# Altium integrated library NSC Interface.IntLib: 1288 symbols (part 3 of 45)
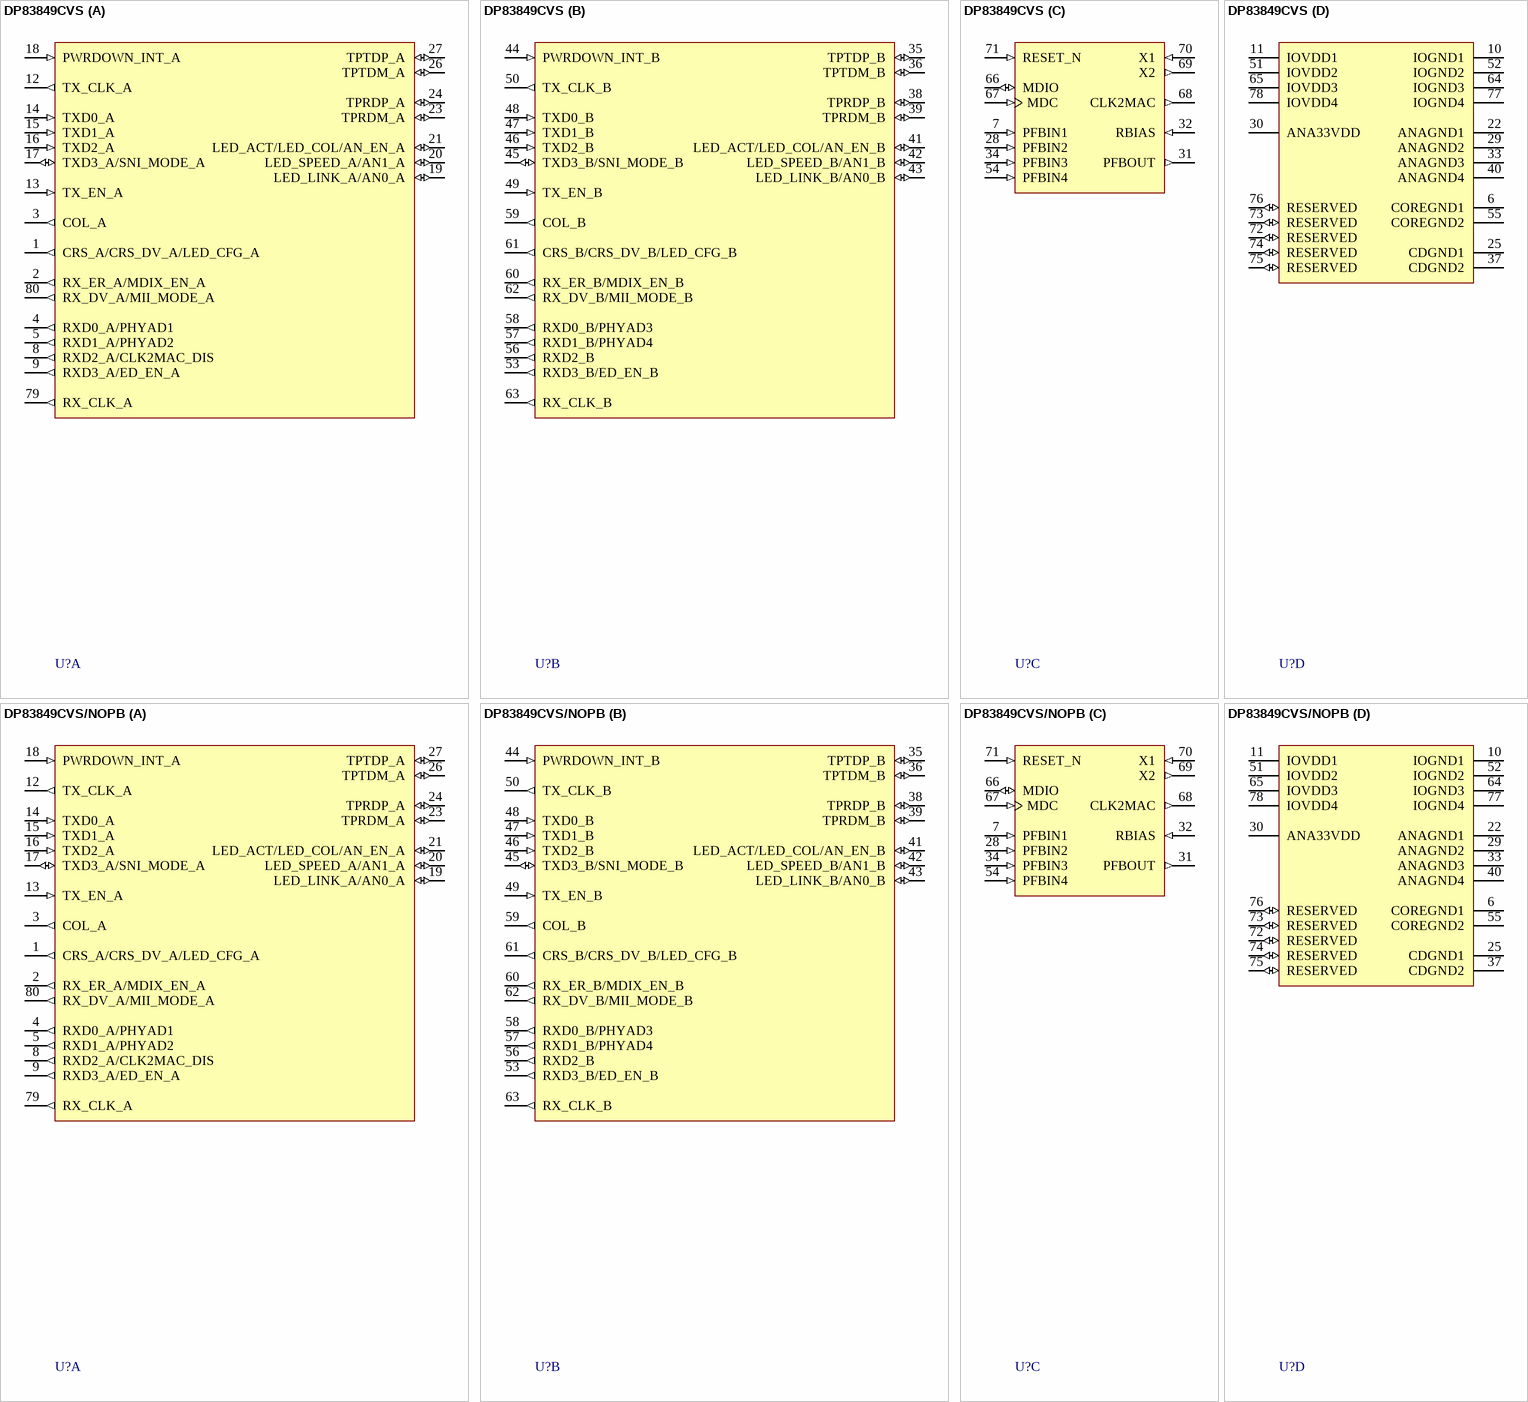
[diagram p114: symbols DP83849CVS to DP83849CVS/NOPB]

## DP83849CVS/NOPB
designator U?
PHYTER® DUAL Commercial Temperature Dual Port 10/100 Mb/s Ethernet Physical Layer Transceiver, 80-pin TQFP, Pb-Free; PartNumber: DP83849CVS/NOPB; Manufacturer: National Semiconductor; PackageTopMarking: NSUZXYTTE#*DP83849CVS; PowerWise: N; CompType: Interface IC; Published: 1-Mar-2010; DatasheetVersion: May-2008; PackageVersion: revB, Dec-1999; PackageReference: VHB80A; Publisher: Altium Limited; PackageDescription: LQFP, Jedec, Metric, 12 x 12 x 1.0mm, 80 Lead; Supplier 1: Digi-Key; Supplier Part Number 1: DP83849CVS-ND; Supplier 2: Farnell; Supplier Part Number 2: 1654254; RoHS: Y; PinCount: 80; Code_JEDEC: MS-026-ADD; ComponentLink1Description: DP83849C Datasheet; ComponentLink1URL: http://www.national.com/ds/DP/DP83849C.pdf; ComponentLink2Description: DP83849C Web Page; ComponentLink2URL: http://www.national.com/pf/DP/DP83849C.html; ComponentLink3Description: VHB80A Package Page; ComponentLink3URL: http://www.national.com/packaging/folders/vhb80a.html
footprint VHB80A_N (Thin QFP, 80-Leads, Body 12x12mm, Pitch 0.5mm, IPC Medium Density)
footprint VHB80A_L (Thin QFP, 80-Leads, Body 12x12mm, Pitch 0.5mm, IPC High Density)
footprint VHB80A_M (Thin QFP, 80-Leads, Body 12x12mm, Pitch 0.5mm, IPC Low Density)
part A pins: 1 CRS_A/CRS_DV_A/LED_CFG_A (out), 2 RX_ER_A/MDIX_EN_A (out), 3 COL_A (out), 4 RXD0_A/PHYAD1 (out), 5 RXD1_A/PHYAD2 (out), 8 RXD2_A/CLK2MAC_DIS (out), 9 RXD3_A/ED_EN_A (out), 12 TX_CLK_A (out), 13 TX_EN_A (in), 14 TXD0_A (in), 15 TXD1_A (in), 16 TXD2_A (in), 17 TXD3_A/SNI_MODE_A (io), 18 PWRDOWN_INT_A (in), 19 LED_LINK_A/AN0_A (io), 20 LED_SPEED_A/AN1_A (io), 21 LED_ACT/LED_COL/AN_EN_A (io), 23 TPRDM_A (io), 24 TPRDP_A (io), 26 TPTDM_A (io), 27 TPTDP_A (io), 79 RX_CLK_A (out), 80 RX_DV_A/MII_MODE_A (out)
part B pins: 35 TPTDP_B (io), 36 TPTDM_B (io), 38 TPRDP_B (io), 39 TPRDM_B (io), 41 LED_ACT/LED_COL/AN_EN_B (io), 42 LED_SPEED_B/AN1_B (io), 43 LED_LINK_B/AN0_B (io), 44 PWRDOWN_INT_B (in), 45 TXD3_B/SNI_MODE_B (io), 46 TXD2_B (in), 47 TXD1_B (in), 48 TXD0_B (in), 49 TX_EN_B (in), 50 TX_CLK_B (out), 53 RXD3_B/ED_EN_B (out), 56 RXD2_B (out), 57 RXD1_B/PHYAD4 (out), 58 RXD0_B/PHYAD3 (out), 59 COL_B (out), 60 RX_ER_B/MDIX_EN_B (out), 61 CRS_B/CRS_DV_B/LED_CFG_B (out), 62 RX_DV_B/MII_MODE_B (out), 63 RX_CLK_B (out)
part C pins: 7 PFBIN1 (in), 28 PFBIN2 (in), 31 PFBOUT (out), 32 RBIAS (in), 34 PFBIN3 (in), 54 PFBIN4 (in), 66 MDIO (io), 67 MDC (in), 68 CLK2MAC (out), 69 X2 (out), 70 X1 (in), 71 RESET_N (in)
part D pins: 6 COREGND1 (power), 10 IOGND1 (power), 11 IOVDD1 (power), 22 ANAGND1 (power), 25 CDGND1 (power), 29 ANAGND2 (power), 30 ANA33VDD (power), 33 ANAGND3 (power), 37 CDGND2 (power), 40 ANAGND4 (power), 51 IOVDD2 (power), 52 IOGND2 (power), 55 COREGND2 (power), 64 IOGND3 (power), 65 IOVDD3 (power), 72 RESERVED (io), 73 RESERVED (io), 74 RESERVED (io), 75 RESERVED (io), 76 RESERVED (io), 77 IOGND4 (power), 78 IOVDD4 (power)

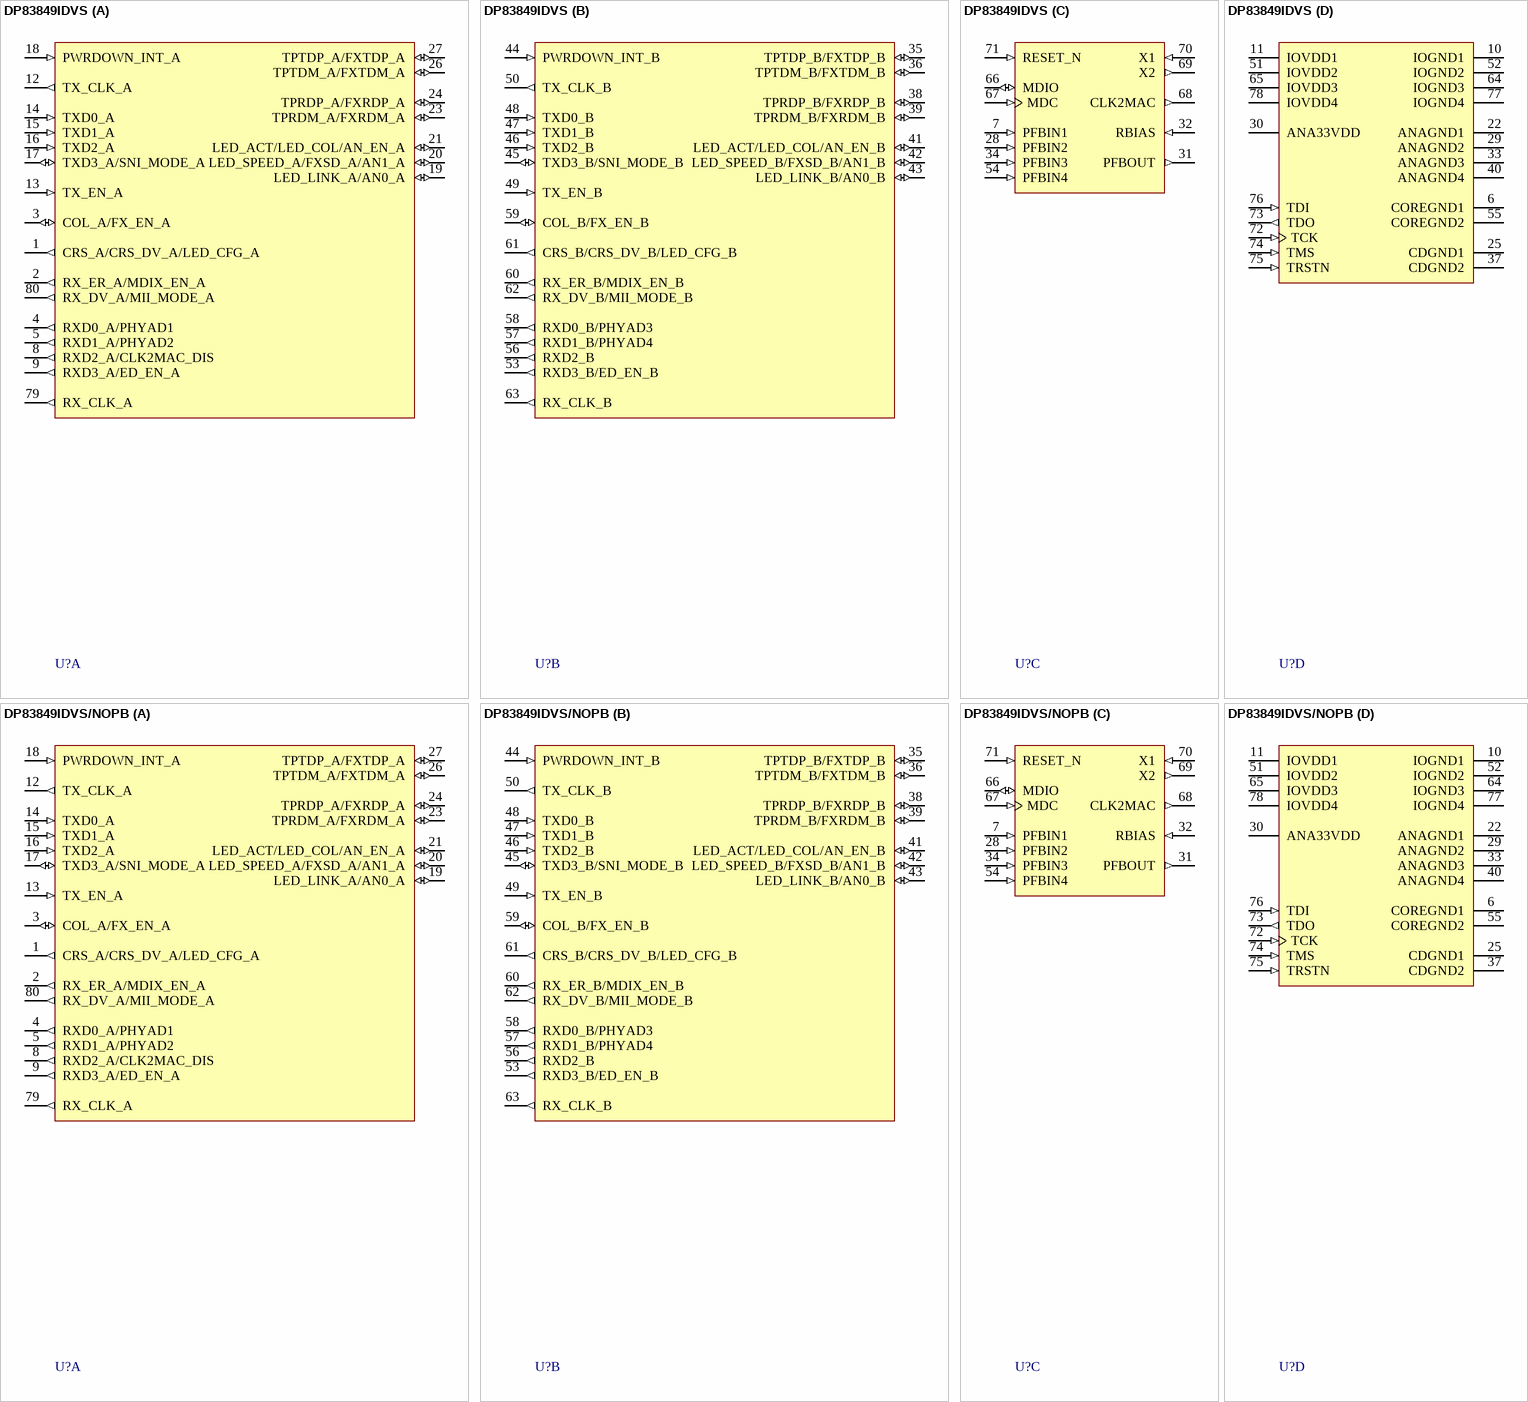
[diagram p8: symbols DP83849IDVS to DP83849IDVS/NOPB]

## DP83849IDVS
designator U?
PHYTER® DUAL Industrial Temperature with Fiber Support (FX), Dual Port 10/100 Mb/s Ethernet Physical Layer Transceiver, 80-pin TQFP; PartNumber: DP83849IDVS; Manufacturer: National Semiconductor; PackageTopMarking: NSUZXYTT*DP83849IDVS; PowerWise: N; CompType: Interface IC; Published: 4-Dec-2008; DatasheetVersion: May-2008; PackageVersion: revB, Dec-1999; PackageReference: VHB80A; Publisher: Altium Limited; PackageDescription: LQFP, Jedec, Metric, 12 x 12 x 1.0mm, 80 Lead; Supplier 1: Farnell; Supplier Part Number 1: 1271401; RoHS: N; PinCount: 80; Code_JEDEC: MS-026-ADD; ComponentLink1Description: DP83849ID Datasheet; ComponentLink1URL: http://www.national.com/ds/DP/DP83849ID.pdf; ComponentLink2Description: DP83849ID Web Page; ComponentLink2URL: http://www.national.com/pf/DP/DP83849ID.html; ComponentLink3Description: VHB80A Package Page; ComponentLink3URL: http://www.national.com/packaging/folders/vhb80a.html
footprint VHB80A_N (Thin QFP, 80-Leads, Body 12x12mm, Pitch 0.5mm, IPC Medium Density)
footprint VHB80A_L (Thin QFP, 80-Leads, Body 12x12mm, Pitch 0.5mm, IPC High Density)
footprint VHB80A_M (Thin QFP, 80-Leads, Body 12x12mm, Pitch 0.5mm, IPC Low Density)
part A pins: 1 CRS_A/CRS_DV_A/LED_CFG_A (out), 2 RX_ER_A/MDIX_EN_A (out), 3 COL_A/FX_EN_A (io), 4 RXD0_A/PHYAD1 (out), 5 RXD1_A/PHYAD2 (out), 8 RXD2_A/CLK2MAC_DIS (out), 9 RXD3_A/ED_EN_A (out), 12 TX_CLK_A (out), 13 TX_EN_A (in), 14 TXD0_A (in), 15 TXD1_A (in), 16 TXD2_A (in), 17 TXD3_A/SNI_MODE_A (io), 18 PWRDOWN_INT_A (in), 19 LED_LINK_A/AN0_A (io), 20 LED_SPEED_A/FXSD_A/AN1_A (io), 21 LED_ACT/LED_COL/AN_EN_A (io), 23 TPRDM_A/FXRDM_A (io), 24 TPRDP_A/FXRDP_A (io), 26 TPTDM_A/FXTDM_A (io), 27 TPTDP_A/FXTDP_A (io), 79 RX_CLK_A (out), 80 RX_DV_A/MII_MODE_A (out)
part B pins: 35 TPTDP_B/FXTDP_B (io), 36 TPTDM_B/FXTDM_B (io), 38 TPRDP_B/FXRDP_B (io), 39 TPRDM_B/FXRDM_B (io), 41 LED_ACT/LED_COL/AN_EN_B (io), 42 LED_SPEED_B/FXSD_B/AN1_B (io), 43 LED_LINK_B/AN0_B (io), 44 PWRDOWN_INT_B (in), 45 TXD3_B/SNI_MODE_B (io), 46 TXD2_B (in), 47 TXD1_B (in), 48 TXD0_B (in), 49 TX_EN_B (in), 50 TX_CLK_B (out), 53 RXD3_B/ED_EN_B (out), 56 RXD2_B (out), 57 RXD1_B/PHYAD4 (out), 58 RXD0_B/PHYAD3 (out), 59 COL_B/FX_EN_B (io), 60 RX_ER_B/MDIX_EN_B (out), 61 CRS_B/CRS_DV_B/LED_CFG_B (out), 62 RX_DV_B/MII_MODE_B (out), 63 RX_CLK_B (out)
part C pins: 7 PFBIN1 (in), 28 PFBIN2 (in), 31 PFBOUT (out), 32 RBIAS (in), 34 PFBIN3 (in), 54 PFBIN4 (in), 66 MDIO (io), 67 MDC (in), 68 CLK2MAC (out), 69 X2 (out), 70 X1 (in), 71 RESET_N (in)
part D pins: 6 COREGND1 (power), 10 IOGND1 (power), 11 IOVDD1 (power), 22 ANAGND1 (power), 25 CDGND1 (power), 29 ANAGND2 (power), 30 ANA33VDD (power), 33 ANAGND3 (power), 37 CDGND2 (power), 40 ANAGND4 (power), 51 IOVDD2 (power), 52 IOGND2 (power), 55 COREGND2 (power), 64 IOGND3 (power), 65 IOVDD3 (power), 72 TCK (in), 73 TDO (out), 74 TMS (in), 75 TRSTN (in), 76 TDI (in), 77 IOGND4 (power), 78 IOVDD4 (power)

## DP83849IDVS/NOPB
designator U?
PHYTER® DUAL Industrial Temperature with Fiber Support (FX), Dual Port 10/100 Mb/s Ethernet Physical Layer Transceiver, 80-pin TQFP, Pb-Free; PartNumber: DP83849IDVS/NOPB; Manufacturer: National Semiconductor; PackageTopMarking: NSUZXYTTE#*DP83849IDVS; PowerWise: N; CompType: Interface IC; Published: 1-Mar-2010; DatasheetVersion: May-2008; PackageVersion: revB, Dec-1999; PackageReference: VHB80A; Publisher: Altium Limited; PackageDescription: LQFP, Jedec, Metric, 12 x 12 x 1.0mm, 80 Lead; Supplier 1: Digi-Key; Supplier Part Number 1: DP83849IDVS-ND; RoHS: Y; PinCount: 80; Code_JEDEC: MS-026-ADD; ComponentLink1Description: DP83849ID Datasheet; ComponentLink1URL: http://www.national.com/ds/DP/DP83849ID.pdf; ComponentLink2Description: DP83849ID Web Page; ComponentLink2URL: http://www.national.com/pf/DP/DP83849ID.html; ComponentLink3Description: VHB80A Package Page; ComponentLink3URL: http://www.national.com/packaging/folders/vhb80a.html
footprint VHB80A_N (Thin QFP, 80-Leads, Body 12x12mm, Pitch 0.5mm, IPC Medium Density)
footprint VHB80A_L (Thin QFP, 80-Leads, Body 12x12mm, Pitch 0.5mm, IPC High Density)
footprint VHB80A_M (Thin QFP, 80-Leads, Body 12x12mm, Pitch 0.5mm, IPC Low Density)
part A pins: 1 CRS_A/CRS_DV_A/LED_CFG_A (out), 2 RX_ER_A/MDIX_EN_A (out), 3 COL_A/FX_EN_A (io), 4 RXD0_A/PHYAD1 (out), 5 RXD1_A/PHYAD2 (out), 8 RXD2_A/CLK2MAC_DIS (out), 9 RXD3_A/ED_EN_A (out), 12 TX_CLK_A (out), 13 TX_EN_A (in), 14 TXD0_A (in), 15 TXD1_A (in), 16 TXD2_A (in), 17 TXD3_A/SNI_MODE_A (io), 18 PWRDOWN_INT_A (in), 19 LED_LINK_A/AN0_A (io), 20 LED_SPEED_A/FXSD_A/AN1_A (io), 21 LED_ACT/LED_COL/AN_EN_A (io), 23 TPRDM_A/FXRDM_A (io), 24 TPRDP_A/FXRDP_A (io), 26 TPTDM_A/FXTDM_A (io), 27 TPTDP_A/FXTDP_A (io), 79 RX_CLK_A (out), 80 RX_DV_A/MII_MODE_A (out)
part B pins: 35 TPTDP_B/FXTDP_B (io), 36 TPTDM_B/FXTDM_B (io), 38 TPRDP_B/FXRDP_B (io), 39 TPRDM_B/FXRDM_B (io), 41 LED_ACT/LED_COL/AN_EN_B (io), 42 LED_SPEED_B/FXSD_B/AN1_B (io), 43 LED_LINK_B/AN0_B (io), 44 PWRDOWN_INT_B (in), 45 TXD3_B/SNI_MODE_B (io), 46 TXD2_B (in), 47 TXD1_B (in), 48 TXD0_B (in), 49 TX_EN_B (in), 50 TX_CLK_B (out), 53 RXD3_B/ED_EN_B (out), 56 RXD2_B (out), 57 RXD1_B/PHYAD4 (out), 58 RXD0_B/PHYAD3 (out), 59 COL_B/FX_EN_B (io), 60 RX_ER_B/MDIX_EN_B (out), 61 CRS_B/CRS_DV_B/LED_CFG_B (out), 62 RX_DV_B/MII_MODE_B (out), 63 RX_CLK_B (out)
part C pins: 7 PFBIN1 (in), 28 PFBIN2 (in), 31 PFBOUT (out), 32 RBIAS (in), 34 PFBIN3 (in), 54 PFBIN4 (in), 66 MDIO (io), 67 MDC (in), 68 CLK2MAC (out), 69 X2 (out), 70 X1 (in), 71 RESET_N (in)
part D pins: 6 COREGND1 (power), 10 IOGND1 (power), 11 IOVDD1 (power), 22 ANAGND1 (power), 25 CDGND1 (power), 29 ANAGND2 (power), 30 ANA33VDD (power), 33 ANAGND3 (power), 37 CDGND2 (power), 40 ANAGND4 (power), 51 IOVDD2 (power), 52 IOGND2 (power), 55 COREGND2 (power), 64 IOGND3 (power), 65 IOVDD3 (power), 72 TCK (in), 73 TDO (out), 74 TMS (in), 75 TRSTN (in), 76 TDI (in), 77 IOGND4 (power), 78 IOVDD4 (power)

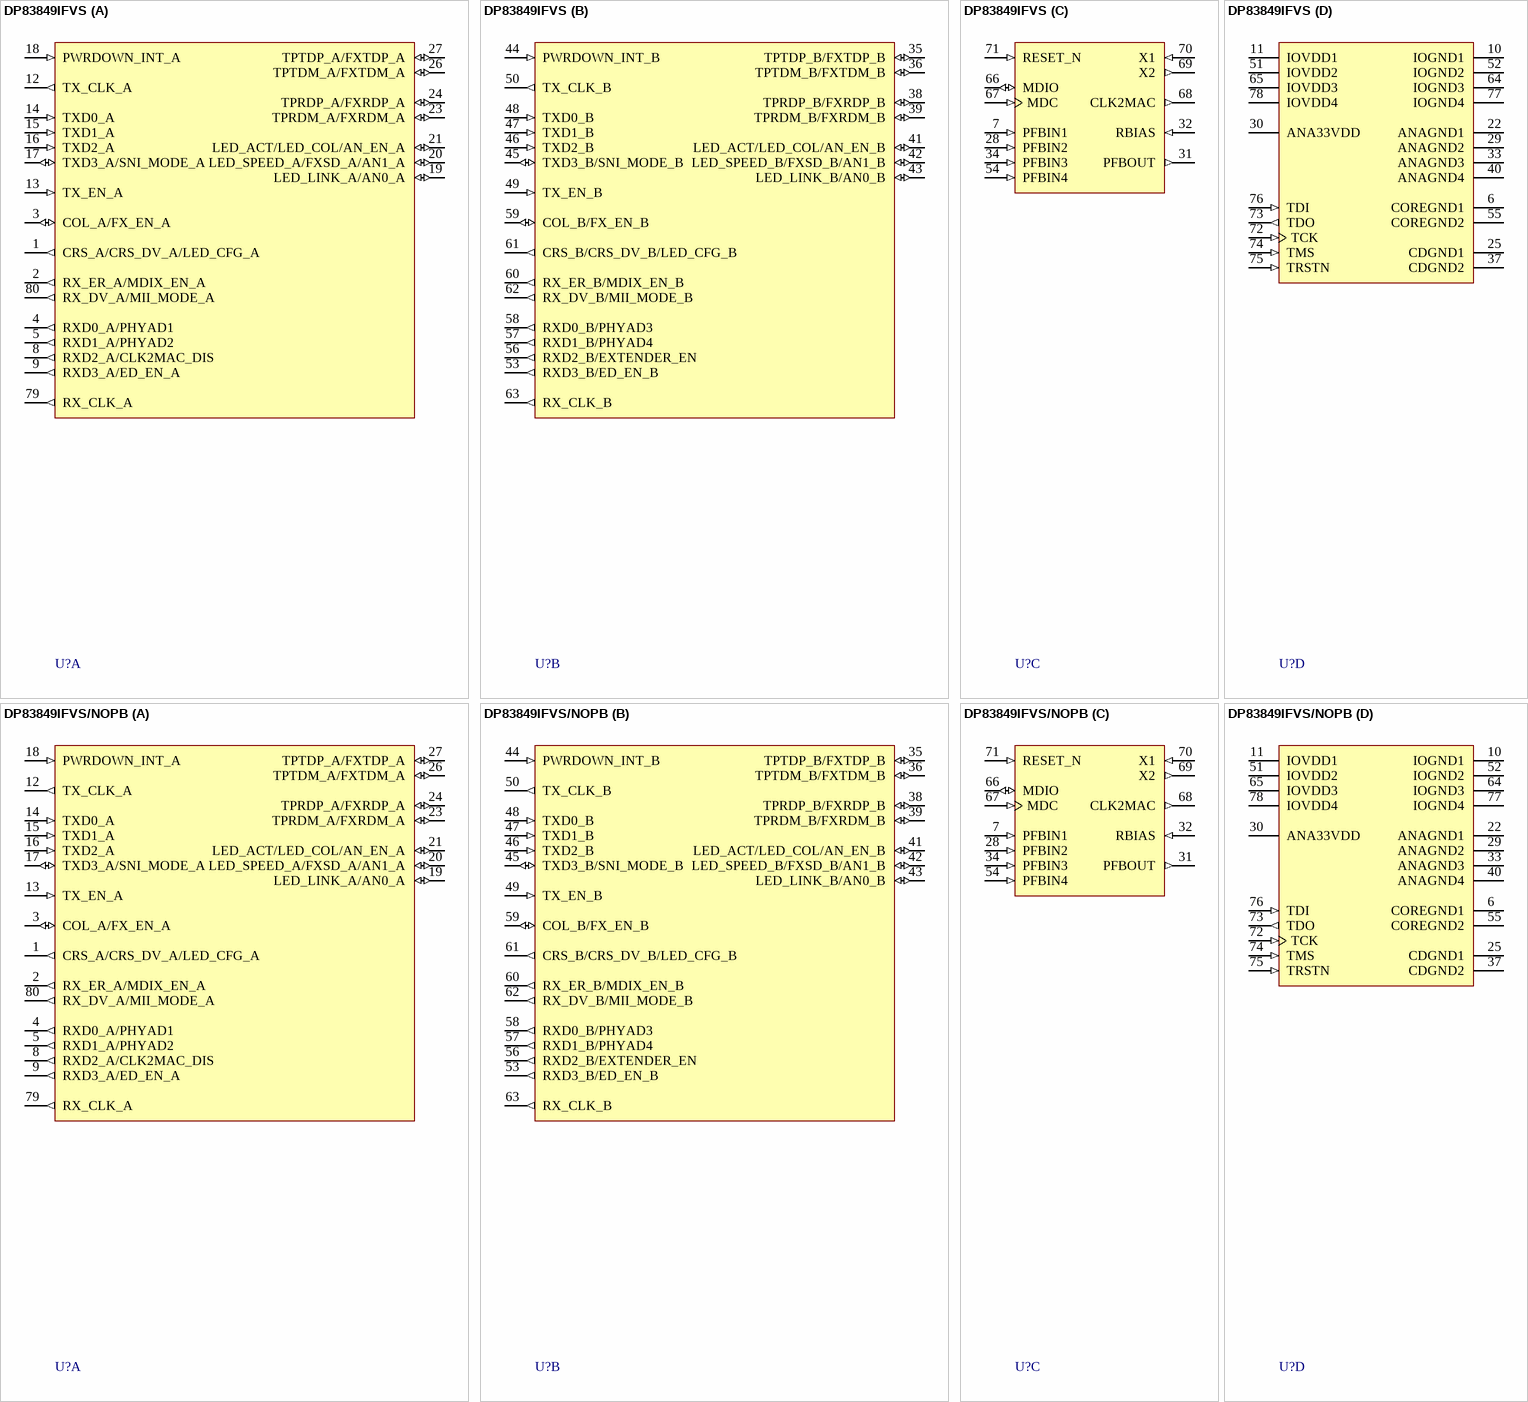
[diagram p9: symbols DP83849IFVS to DP83849IFVS/NOPB]

## DP83849IFVS
designator U?
PHYTER® DUAL Industrial Temperature with Fiber Support (FX) and Flexible Port Switching Dual Port 10/100 Mb/s Ethernet Physical Layer Transceiver, 80-pin TQFP; PartNumber: DP83849IFVS; Manufacturer: National Semiconductor; PackageTopMarking: NSUZXYTT*DP83849IFVS; PowerWise: N; CompType: Interface IC; Published: 4-Dec-2008; DatasheetVersion: Apr-2009; PackageVersion: revB, Dec-1999; PackageReference: VHB80A; Publisher: Altium Limited; PackageDescription: LQFP, Jedec, Metric, 12 x 12 x 1.0mm, 80 Lead; Supplier 1: Farnell; Supplier Part Number 1: 1271402; RoHS: N; PinCount: 80; Code_JEDEC: MS-026-ADD; ComponentLink1Description: DP83849IF Datasheet; ComponentLink1URL: http://www.national.com/ds/DP/DP83849IF.pdf; ComponentLink2Description: DP83849IF Web Page; ComponentLink2URL: http://www.national.com/pf/DP/DP83849IF.html; ComponentLink3Description: VHB80A Package Page; ComponentLink3URL: http://www.national.com/packaging/folders/vhb80a.html
footprint VHB80A_N (Thin QFP, 80-Leads, Body 12x12mm, Pitch 0.5mm, IPC Medium Density)
footprint VHB80A_L (Thin QFP, 80-Leads, Body 12x12mm, Pitch 0.5mm, IPC High Density)
footprint VHB80A_M (Thin QFP, 80-Leads, Body 12x12mm, Pitch 0.5mm, IPC Low Density)
part A pins: 1 CRS_A/CRS_DV_A/LED_CFG_A (out), 2 RX_ER_A/MDIX_EN_A (out), 3 COL_A/FX_EN_A (io), 4 RXD0_A/PHYAD1 (out), 5 RXD1_A/PHYAD2 (out), 8 RXD2_A/CLK2MAC_DIS (out), 9 RXD3_A/ED_EN_A (out), 12 TX_CLK_A (out), 13 TX_EN_A (in), 14 TXD0_A (in), 15 TXD1_A (in), 16 TXD2_A (in), 17 TXD3_A/SNI_MODE_A (io), 18 PWRDOWN_INT_A (in), 19 LED_LINK_A/AN0_A (io), 20 LED_SPEED_A/FXSD_A/AN1_A (io), 21 LED_ACT/LED_COL/AN_EN_A (io), 23 TPRDM_A/FXRDM_A (io), 24 TPRDP_A/FXRDP_A (io), 26 TPTDM_A/FXTDM_A (io), 27 TPTDP_A/FXTDP_A (io), 79 RX_CLK_A (out), 80 RX_DV_A/MII_MODE_A (out)
part B pins: 35 TPTDP_B/FXTDP_B (io), 36 TPTDM_B/FXTDM_B (io), 38 TPRDP_B/FXRDP_B (io), 39 TPRDM_B/FXRDM_B (io), 41 LED_ACT/LED_COL/AN_EN_B (io), 42 LED_SPEED_B/FXSD_B/AN1_B (io), 43 LED_LINK_B/AN0_B (io), 44 PWRDOWN_INT_B (in), 45 TXD3_B/SNI_MODE_B (io), 46 TXD2_B (in), 47 TXD1_B (in), 48 TXD0_B (in), 49 TX_EN_B (in), 50 TX_CLK_B (out), 53 RXD3_B/ED_EN_B (out), 56 RXD2_B/EXTENDER_EN (out), 57 RXD1_B/PHYAD4 (out), 58 RXD0_B/PHYAD3 (out), 59 COL_B/FX_EN_B (io), 60 RX_ER_B/MDIX_EN_B (out), 61 CRS_B/CRS_DV_B/LED_CFG_B (out), 62 RX_DV_B/MII_MODE_B (out), 63 RX_CLK_B (out)
part C pins: 7 PFBIN1 (in), 28 PFBIN2 (in), 31 PFBOUT (out), 32 RBIAS (in), 34 PFBIN3 (in), 54 PFBIN4 (in), 66 MDIO (io), 67 MDC (in), 68 CLK2MAC (out), 69 X2 (out), 70 X1 (in), 71 RESET_N (in)
part D pins: 6 COREGND1 (power), 10 IOGND1 (power), 11 IOVDD1 (power), 22 ANAGND1 (power), 25 CDGND1 (power), 29 ANAGND2 (power), 30 ANA33VDD (power), 33 ANAGND3 (power), 37 CDGND2 (power), 40 ANAGND4 (power), 51 IOVDD2 (power), 52 IOGND2 (power), 55 COREGND2 (power), 64 IOGND3 (power), 65 IOVDD3 (power), 72 TCK (in), 73 TDO (out), 74 TMS (in), 75 TRSTN (in), 76 TDI (in), 77 IOGND4 (power), 78 IOVDD4 (power)

## DP83849IFVS/NOPB
designator U?
PHYTER® DUAL Industrial Temperature with Fiber Support (FX) and Flexible Port Switching Dual Port 10/100 Mb/s Ethernet Physical Layer Tranceiver, 80-pin TQFP, Pb-Free; PartNumber: DP83849IFVS/NOPB; Manufacturer: National Semiconductor; PackageTopMarking: NSUZXYTTE#*DP83849IFVS; PowerWise: N; CompType: Interface IC; Published: 1-Mar-2010; DatasheetVersion: Apr-2009; PackageVersion: revB, Dec-1999; PackageReference: VHB80A; Publisher: Altium Limited; PackageDescription: LQFP, Jedec, Metric, 12 x 12 x 1.0mm, 80 Lead; Supplier 1: Digi-Key; Supplier Part Number 1: DP83849IFVS-ND; Supplier 2: Farnell; Supplier Part Number 2: 1654256; RoHS: Y; PinCount: 80; Code_JEDEC: MS-026-ADD; ComponentLink1Description: DP83849IF Datasheet; ComponentLink1URL: http://www.national.com/ds/DP/DP83849IF.pdf; ComponentLink2Description: DP83849IF Web Page; ComponentLink2URL: http://www.national.com/pf/DP/DP83849IF.html; ComponentLink3Description: VHB80A Package Page; ComponentLink3URL: http://www.national.com/packaging/folders/vhb80a.html
footprint VHB80A_N (Thin QFP, 80-Leads, Body 12x12mm, Pitch 0.5mm, IPC Medium Density)
footprint VHB80A_L (Thin QFP, 80-Leads, Body 12x12mm, Pitch 0.5mm, IPC High Density)
footprint VHB80A_M (Thin QFP, 80-Leads, Body 12x12mm, Pitch 0.5mm, IPC Low Density)
part A pins: 1 CRS_A/CRS_DV_A/LED_CFG_A (out), 2 RX_ER_A/MDIX_EN_A (out), 3 COL_A/FX_EN_A (io), 4 RXD0_A/PHYAD1 (out), 5 RXD1_A/PHYAD2 (out), 8 RXD2_A/CLK2MAC_DIS (out), 9 RXD3_A/ED_EN_A (out), 12 TX_CLK_A (out), 13 TX_EN_A (in), 14 TXD0_A (in), 15 TXD1_A (in), 16 TXD2_A (in), 17 TXD3_A/SNI_MODE_A (io), 18 PWRDOWN_INT_A (in), 19 LED_LINK_A/AN0_A (io), 20 LED_SPEED_A/FXSD_A/AN1_A (io), 21 LED_ACT/LED_COL/AN_EN_A (io), 23 TPRDM_A/FXRDM_A (io), 24 TPRDP_A/FXRDP_A (io), 26 TPTDM_A/FXTDM_A (io), 27 TPTDP_A/FXTDP_A (io), 79 RX_CLK_A (out), 80 RX_DV_A/MII_MODE_A (out)
part B pins: 35 TPTDP_B/FXTDP_B (io), 36 TPTDM_B/FXTDM_B (io), 38 TPRDP_B/FXRDP_B (io), 39 TPRDM_B/FXRDM_B (io), 41 LED_ACT/LED_COL/AN_EN_B (io), 42 LED_SPEED_B/FXSD_B/AN1_B (io), 43 LED_LINK_B/AN0_B (io), 44 PWRDOWN_INT_B (in), 45 TXD3_B/SNI_MODE_B (io), 46 TXD2_B (in), 47 TXD1_B (in), 48 TXD0_B (in), 49 TX_EN_B (in), 50 TX_CLK_B (out), 53 RXD3_B/ED_EN_B (out), 56 RXD2_B/EXTENDER_EN (out), 57 RXD1_B/PHYAD4 (out), 58 RXD0_B/PHYAD3 (out), 59 COL_B/FX_EN_B (io), 60 RX_ER_B/MDIX_EN_B (out), 61 CRS_B/CRS_DV_B/LED_CFG_B (out), 62 RX_DV_B/MII_MODE_B (out), 63 RX_CLK_B (out)
part C pins: 7 PFBIN1 (in), 28 PFBIN2 (in), 31 PFBOUT (out), 32 RBIAS (in), 34 PFBIN3 (in), 54 PFBIN4 (in), 66 MDIO (io), 67 MDC (in), 68 CLK2MAC (out), 69 X2 (out), 70 X1 (in), 71 RESET_N (in)
part D pins: 6 COREGND1 (power), 10 IOGND1 (power), 11 IOVDD1 (power), 22 ANAGND1 (power), 25 CDGND1 (power), 29 ANAGND2 (power), 30 ANA33VDD (power), 33 ANAGND3 (power), 37 CDGND2 (power), 40 ANAGND4 (power), 51 IOVDD2 (power), 52 IOGND2 (power), 55 COREGND2 (power), 64 IOGND3 (power), 65 IOVDD3 (power), 72 TCK (in), 73 TDO (out), 74 TMS (in), 75 TRSTN (in), 76 TDI (in), 77 IOGND4 (power), 78 IOVDD4 (power)

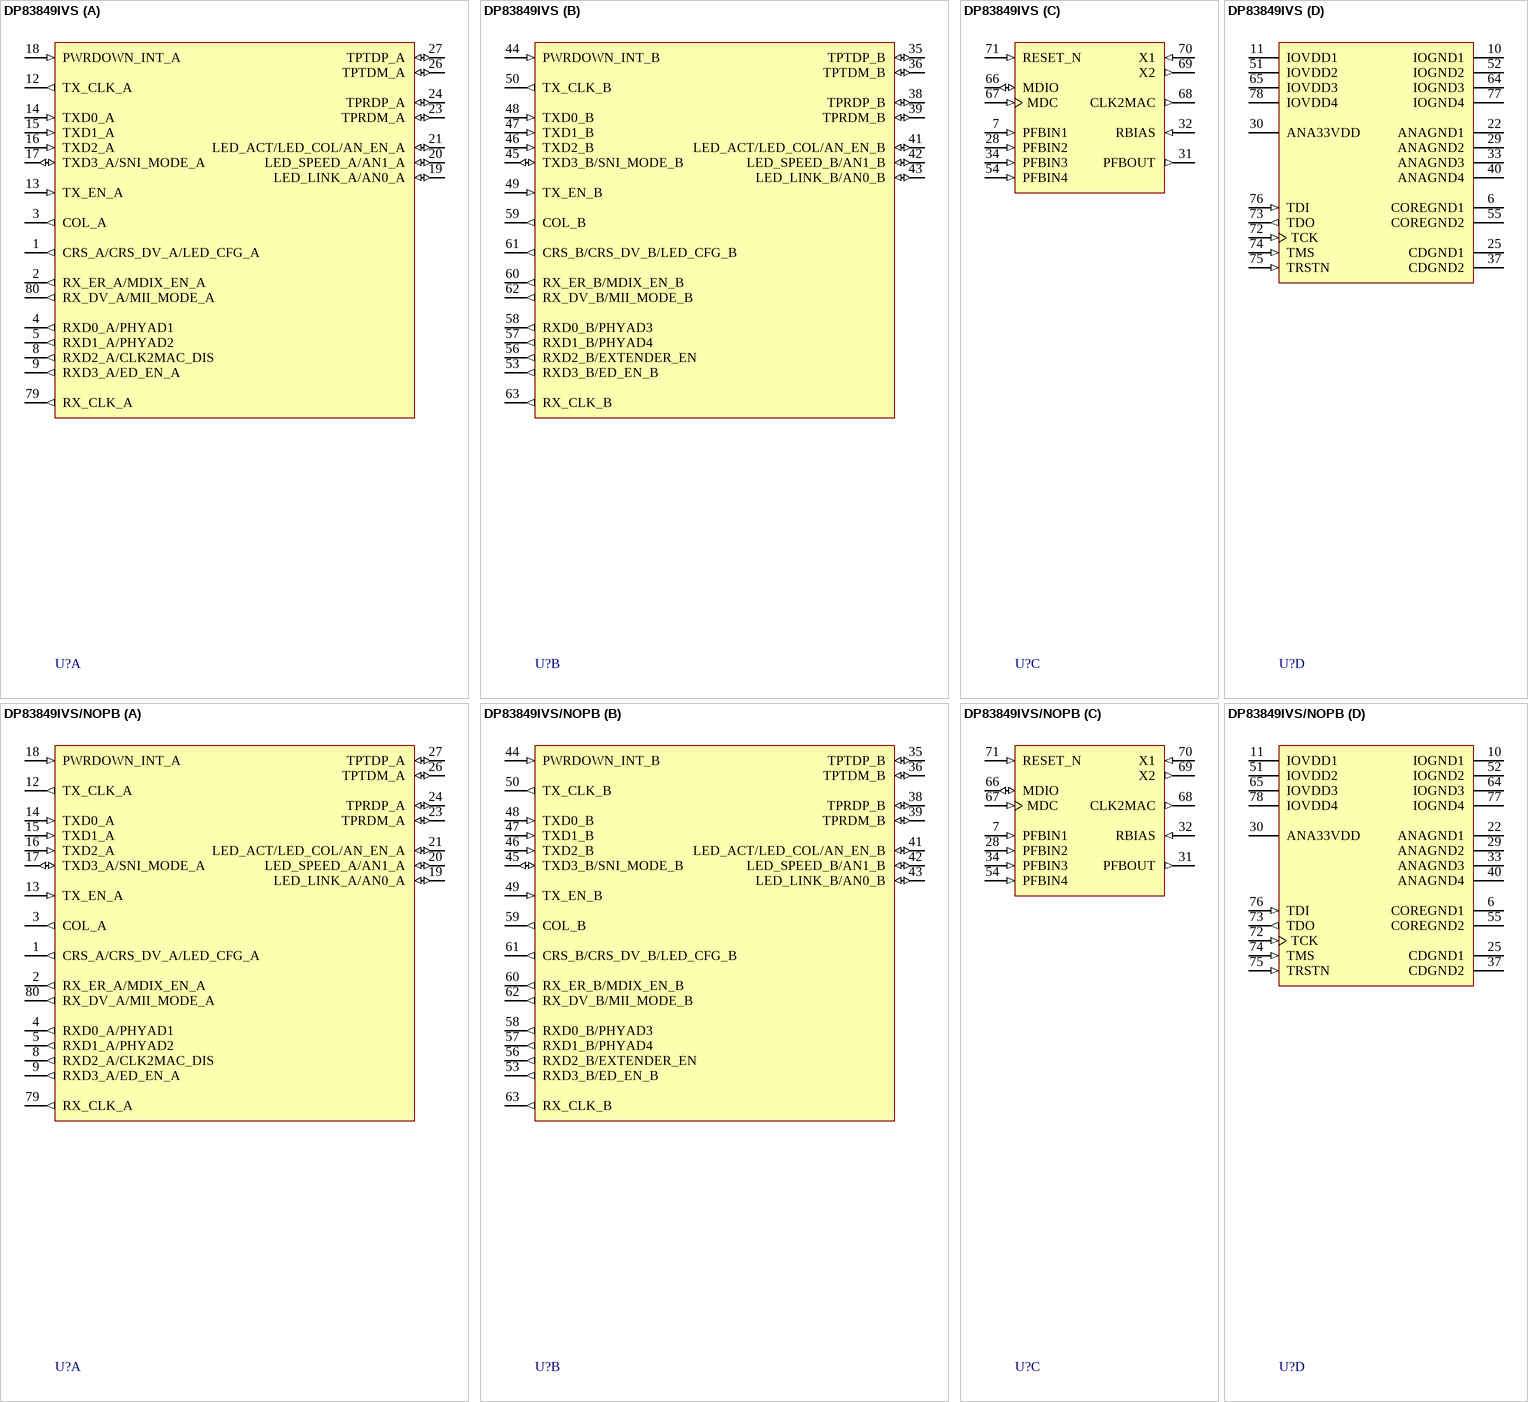
[diagram p10: symbols DP83849IVS to DP83849IVS/NOPB]

## DP83849IVS
designator U?
PHYTER® DUAL Industrial Temperature with Flexible Port Switching Dual Port 10/100 Mb/s Ethernet Physical Layer Transceiver, 80-pin TQFP; PartNumber: DP83849IVS; Manufacturer: National Semiconductor; PackageTopMarking: NSUZXYTT*DP83849IVS; PowerWise: N; CompType: Interface IC; Published: 4-Dec-2008; DatasheetVersion: May-2008; PackageVersion: revB, Dec-1999; PackageReference: VHB80A; Publisher: Altium Limited; PackageDescription: LQFP, Jedec, Metric, 12 x 12 x 1.0mm, 80 Lead; Supplier 1: Farnell; Supplier Part Number 1: 1271403; RoHS: Y; PinCount: 80; Code_JEDEC: MS-026-ADD; ComponentLink1Description: DP83849I Datasheet; ComponentLink1URL: http://www.national.com/ds/DP/DP83849I.pdf; ComponentLink2Description: DP83849I Web Page; ComponentLink2URL: http://www.national.com/pf/DP/DP83849I.html; ComponentLink3Description: VHB80A Package Page; ComponentLink3URL: http://www.national.com/packaging/folders/vhb80a.html
footprint VHB80A_N (Thin QFP, 80-Leads, Body 12x12mm, Pitch 0.5mm, IPC Medium Density)
footprint VHB80A_L (Thin QFP, 80-Leads, Body 12x12mm, Pitch 0.5mm, IPC High Density)
footprint VHB80A_M (Thin QFP, 80-Leads, Body 12x12mm, Pitch 0.5mm, IPC Low Density)
part A pins: 1 CRS_A/CRS_DV_A/LED_CFG_A (out), 2 RX_ER_A/MDIX_EN_A (out), 3 COL_A (out), 4 RXD0_A/PHYAD1 (out), 5 RXD1_A/PHYAD2 (out), 8 RXD2_A/CLK2MAC_DIS (out), 9 RXD3_A/ED_EN_A (out), 12 TX_CLK_A (out), 13 TX_EN_A (in), 14 TXD0_A (in), 15 TXD1_A (in), 16 TXD2_A (in), 17 TXD3_A/SNI_MODE_A (io), 18 PWRDOWN_INT_A (in), 19 LED_LINK_A/AN0_A (io), 20 LED_SPEED_A/AN1_A (io), 21 LED_ACT/LED_COL/AN_EN_A (io), 23 TPRDM_A (io), 24 TPRDP_A (io), 26 TPTDM_A (io), 27 TPTDP_A (io), 79 RX_CLK_A (out), 80 RX_DV_A/MII_MODE_A (out)
part B pins: 35 TPTDP_B (io), 36 TPTDM_B (io), 38 TPRDP_B (io), 39 TPRDM_B (io), 41 LED_ACT/LED_COL/AN_EN_B (io), 42 LED_SPEED_B/AN1_B (io), 43 LED_LINK_B/AN0_B (io), 44 PWRDOWN_INT_B (in), 45 TXD3_B/SNI_MODE_B (io), 46 TXD2_B (in), 47 TXD1_B (in), 48 TXD0_B (in), 49 TX_EN_B (in), 50 TX_CLK_B (out), 53 RXD3_B/ED_EN_B (out), 56 RXD2_B/EXTENDER_EN (out), 57 RXD1_B/PHYAD4 (out), 58 RXD0_B/PHYAD3 (out), 59 COL_B (out), 60 RX_ER_B/MDIX_EN_B (out), 61 CRS_B/CRS_DV_B/LED_CFG_B (out), 62 RX_DV_B/MII_MODE_B (out), 63 RX_CLK_B (out)
part C pins: 7 PFBIN1 (in), 28 PFBIN2 (in), 31 PFBOUT (out), 32 RBIAS (in), 34 PFBIN3 (in), 54 PFBIN4 (in), 66 MDIO (io), 67 MDC (in), 68 CLK2MAC (out), 69 X2 (out), 70 X1 (in), 71 RESET_N (in)
part D pins: 6 COREGND1 (power), 10 IOGND1 (power), 11 IOVDD1 (power), 22 ANAGND1 (power), 25 CDGND1 (power), 29 ANAGND2 (power), 30 ANA33VDD (power), 33 ANAGND3 (power), 37 CDGND2 (power), 40 ANAGND4 (power), 51 IOVDD2 (power), 52 IOGND2 (power), 55 COREGND2 (power), 64 IOGND3 (power), 65 IOVDD3 (power), 72 TCK (in), 73 TDO (out), 74 TMS (in), 75 TRSTN (in), 76 TDI (in), 77 IOGND4 (power), 78 IOVDD4 (power)

## DP83849IVS/NOPB
designator U?
PHYTER® DUAL Industrial Temperature with Flexible Port Switching Dual Port 10/100 Mb/s Ethernet Physical Layer Transceiver, 80-pin TQFP, Pb-Free; PartNumber: DP83849IVS/NOPB; Manufacturer: National Semiconductor; PackageTopMarking: NSUZXYTTE#*DP83849IVS; PowerWise: N; CompType: Interface IC; Published: 1-Mar-2010; DatasheetVersion: May-2008; PackageVersion: revB, Dec-1999; PackageReference: VHB80A; Publisher: Altium Limited; PackageDescription: LQFP, Jedec, Metric, 12 x 12 x 1.0mm, 80 Lead; Supplier 1: Digi-Key; Supplier Part Number 1: DP83849IVS-ND; Supplier 2: Digi-Key; Supplier Part Number 2: DP83849IVSTR-ND; RoHS: Y; PinCount: 80; Code_JEDEC: MS-026-ADD; ComponentLink1Description: DP83849I Datasheet; ComponentLink1URL: http://www.national.com/ds/DP/DP83849I.pdf; ComponentLink2Description: DP83849I Web Page; ComponentLink2URL: http://www.national.com/pf/DP/DP83849I.html; ComponentLink3Description: VHB80A Package Page; ComponentLink3URL: http://www.national.com/packaging/folders/vhb80a.html
footprint VHB80A_N (Thin QFP, 80-Leads, Body 12x12mm, Pitch 0.5mm, IPC Medium Density)
footprint VHB80A_L (Thin QFP, 80-Leads, Body 12x12mm, Pitch 0.5mm, IPC High Density)
footprint VHB80A_M (Thin QFP, 80-Leads, Body 12x12mm, Pitch 0.5mm, IPC Low Density)
part A pins: 1 CRS_A/CRS_DV_A/LED_CFG_A (out), 2 RX_ER_A/MDIX_EN_A (out), 3 COL_A (out), 4 RXD0_A/PHYAD1 (out), 5 RXD1_A/PHYAD2 (out), 8 RXD2_A/CLK2MAC_DIS (out), 9 RXD3_A/ED_EN_A (out), 12 TX_CLK_A (out), 13 TX_EN_A (in), 14 TXD0_A (in), 15 TXD1_A (in), 16 TXD2_A (in), 17 TXD3_A/SNI_MODE_A (io), 18 PWRDOWN_INT_A (in), 19 LED_LINK_A/AN0_A (io), 20 LED_SPEED_A/AN1_A (io), 21 LED_ACT/LED_COL/AN_EN_A (io), 23 TPRDM_A (io), 24 TPRDP_A (io), 26 TPTDM_A (io), 27 TPTDP_A (io), 79 RX_CLK_A (out), 80 RX_DV_A/MII_MODE_A (out)
part B pins: 35 TPTDP_B (io), 36 TPTDM_B (io), 38 TPRDP_B (io), 39 TPRDM_B (io), 41 LED_ACT/LED_COL/AN_EN_B (io), 42 LED_SPEED_B/AN1_B (io), 43 LED_LINK_B/AN0_B (io), 44 PWRDOWN_INT_B (in), 45 TXD3_B/SNI_MODE_B (io), 46 TXD2_B (in), 47 TXD1_B (in), 48 TXD0_B (in), 49 TX_EN_B (in), 50 TX_CLK_B (out), 53 RXD3_B/ED_EN_B (out), 56 RXD2_B/EXTENDER_EN (out), 57 RXD1_B/PHYAD4 (out), 58 RXD0_B/PHYAD3 (out), 59 COL_B (out), 60 RX_ER_B/MDIX_EN_B (out), 61 CRS_B/CRS_DV_B/LED_CFG_B (out), 62 RX_DV_B/MII_MODE_B (out), 63 RX_CLK_B (out)
part C pins: 7 PFBIN1 (in), 28 PFBIN2 (in), 31 PFBOUT (out), 32 RBIAS (in), 34 PFBIN3 (in), 54 PFBIN4 (in), 66 MDIO (io), 67 MDC (in), 68 CLK2MAC (out), 69 X2 (out), 70 X1 (in), 71 RESET_N (in)
part D pins: 6 COREGND1 (power), 10 IOGND1 (power), 11 IOVDD1 (power), 22 ANAGND1 (power), 25 CDGND1 (power), 29 ANAGND2 (power), 30 ANA33VDD (power), 33 ANAGND3 (power), 37 CDGND2 (power), 40 ANAGND4 (power), 51 IOVDD2 (power), 52 IOGND2 (power), 55 COREGND2 (power), 64 IOGND3 (power), 65 IOVDD3 (power), 72 TCK (in), 73 TDO (out), 74 TMS (in), 75 TRSTN (in), 76 TDI (in), 77 IOGND4 (power), 78 IOVDD4 (power)

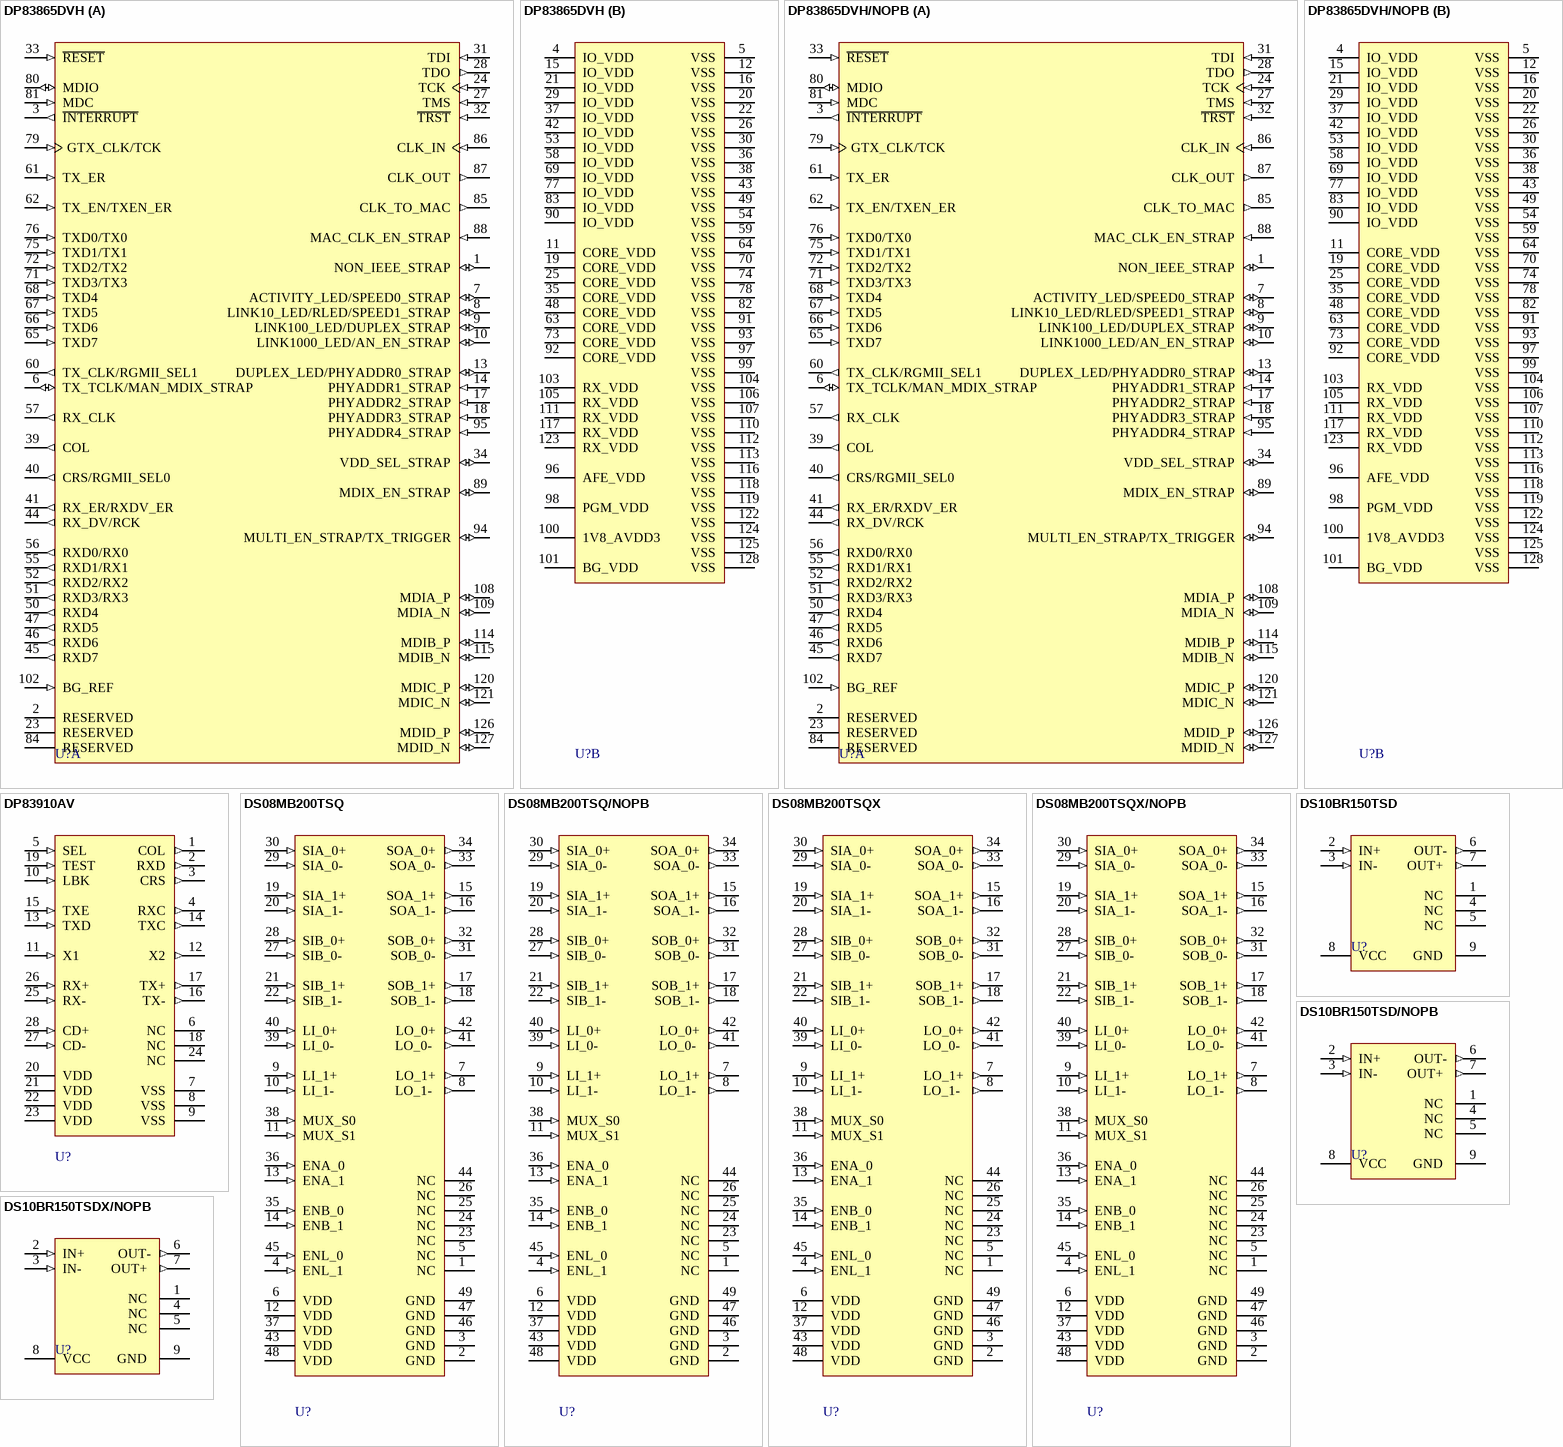
[diagram p11: symbols DP83865DVH to DS10BR150TSDX/NOPB]

## DP83865DVH
designator U?
Gig PHYTER® V 10/100/1000 Ethernet Physical Layer, 128-pin PQFP; PartNumber: DP83865DVH; Manufacturer: National Semiconductor; PackageTopMarking: NSUZXYYTTE#*DP83865DVH; PowerWise: N; CompType: Interface IC; Published: 4-Dec-2008; DatasheetVersion: Oct-2004; PackageVersion: revC, Jun-1998; PackageReference: VLA128A; Publisher: Altium Limited; PackageDescription: PQFP, (S), 14 x 20 x 2.7mm, 128 Lead; Supplier 1: Farnell; Supplier Part Number 1: 8238600; RoHS: N; PinCount: 128; ComponentLink1Description: DP83865 Datasheet; ComponentLink1URL: http://www.national.com/ds/DP/DP83865.pdf; ComponentLink2Description: DP83865 Web Page; ComponentLink2URL: http://www.national.com/pf/DP/DP83865.html; ComponentLink3Description: VLA128A Package Page; ComponentLink3URL: http://www.national.com/packaging/folders/vla128a.html
footprint VLA128A_N (Shrink QFP, 128-Leads, Body 20x14 mm, Pitch 0.5mm, IPC Medium Density)
footprint VLA128A_L (Shrink QFP, 128-Leads, Body 20x14 mm, Pitch 0.5mm, IPC High Density)
footprint VLA128A_M (Shrink QFP, 128-Leads, Body 20x14 mm, Pitch 0.5mm, IPC Low Density)
part A pins: 1 NON_IEEE_STRAP (io), 2 RESERVED, 3 ~{INTERRUPT} (out), 6 TX_TCLK/MAN_MDIX_STRAP (io), 7 ACTIVITY_LED/SPEED0_STRAP (io), 8 LINK10_LED/RLED/SPEED1_STRAP (io), 9 LINK100_LED/DUPLEX_STRAP (io), 10 LINK1000_LED/AN_EN_STRAP (io), 13 DUPLEX_LED/PHYADDR0_STRAP (io), 14 PHYADDR1_STRAP (in), 17 PHYADDR2_STRAP (in), 18 PHYADDR3_STRAP (in), 23 RESERVED, 24 TCK (in), 27 TMS (in), 28 TDO (out), 31 TDI (in), 32 ~{TRST} (in), 33 ~{RESET} (in), 34 VDD_SEL_STRAP (io), 39 COL (out), 40 CRS/RGMII_SEL0 (out), 41 RX_ER/RXDV_ER (out), 44 RX_DV/RCK (out), 45 RXD7 (out), 46 RXD6 (out), 47 RXD5 (out), 50 RXD4 (out), 51 RXD3/RX3 (out), 52 RXD2/RX2 (out), 55 RXD1/RX1 (out), 56 RXD0/RX0 (out), 57 RX_CLK (out), 60 TX_CLK/RGMII_SEL1 (out), 61 TX_ER (in), 62 TX_EN/TXEN_ER (in), 65 TXD7 (in), 66 TXD6 (in), 67 TXD5 (in), 68 TXD4 (in), 71 TXD3/TX3 (in), 72 TXD2/TX2 (in), 75 TXD1/TX1 (in), 76 TXD0/TX0 (in), 79 GTX_CLK/TCK (in), 80 MDIO (io), 81 MDC (in), 84 RESERVED, 85 CLK_TO_MAC (out), 86 CLK_IN (in), 87 CLK_OUT (out), 88 MAC_CLK_EN_STRAP (in), 89 MDIX_EN_STRAP (io), 94 MULTI_EN_STRAP/TX_TRIGGER (io), 95 PHYADDR4_STRAP (in), 102 BG_REF (in), 108 MDIA_P (io), 109 MDIA_N (io), 114 MDIB_P (io), 115 MDIB_N (io), 120 MDIC_P (io), 121 MDIC_N (io), 126 MDID_P (io), 127 MDID_N (io)
part B pins: 4 IO_VDD (power), 5 VSS (power), 11 CORE_VDD (power), 12 VSS (power), 15 IO_VDD (power), 16 VSS (power), 19 CORE_VDD (power), 20 VSS (power), 21 IO_VDD (power), 22 VSS (power), 25 CORE_VDD (power), 26 VSS (power), 29 IO_VDD (power), 30 VSS (power), 35 CORE_VDD (power), 36 VSS (power), 37 IO_VDD (power), 38 VSS (power), 42 IO_VDD (power), 43 VSS (power), 48 CORE_VDD (power), 49 VSS (power), 53 IO_VDD (power), 54 VSS (power), 58 IO_VDD (power), 59 VSS (power), 63 CORE_VDD (power), 64 VSS (power), 69 IO_VDD (power), 70 VSS (power), 73 CORE_VDD (power), 74 VSS (power), 77 IO_VDD (power), 78 VSS (power), 82 VSS (power), 83 IO_VDD (power), 90 IO_VDD (power), 91 VSS (power), 92 CORE_VDD (power), 93 VSS (power), 96 AFE_VDD (power), 97 VSS (power), 98 PGM_VDD (power), 99 VSS (power), 100 1V8_AVDD3 (power), 101 BG_VDD (power), 103 RX_VDD (power), 104 VSS (power), 105 RX_VDD (power), 106 VSS (power), 107 VSS (power), 110 VSS (power), 111 RX_VDD (power), 112 VSS (power), 113 VSS (power), 116 VSS (power), 117 RX_VDD (power), 118 VSS (power), 119 VSS (power), 122 VSS (power), 123 RX_VDD (power), 124 VSS (power), 125 VSS (power), 128 VSS (power)

## DP83865DVH/NOPB
designator U?
Gig PHYTER® V 10/100/1000 Ethernet Physical Layer, 128-pin PQFP, Pb-Free; PartNumber: DP83865DVH/NOPB; Manufacturer: National Semiconductor; PackageTopMarking: NSUZXYYTTE#*DP83865DVH; PowerWise: N; CompType: Interface IC; Published: 1-Mar-2010; DatasheetVersion: Oct-2004; PackageVersion: revC, Jun-1998; PackageReference: VLA128A; Publisher: Altium Limited; PackageDescription: PQFP, (S), 14 x 20 x 2.7mm, 128 Lead; Supplier 1: Digi-Key; Supplier Part Number 1: DP83865DVH-ND; Supplier 2: Farnell; Supplier Part Number 2: 1654289; RoHS: Y; PinCount: 128; ComponentLink1Description: DP83865 Datasheet; ComponentLink1URL: http://www.national.com/ds/DP/DP83865.pdf; ComponentLink2Description: DP83865 Web Page; ComponentLink2URL: http://www.national.com/pf/DP/DP83865.html; ComponentLink3Description: VLA128A Package Page; ComponentLink3URL: http://www.national.com/packaging/folders/vla128a.html
footprint VLA128A_N (Shrink QFP, 128-Leads, Body 20x14 mm, Pitch 0.5mm, IPC Medium Density)
footprint VLA128A_L (Shrink QFP, 128-Leads, Body 20x14 mm, Pitch 0.5mm, IPC High Density)
footprint VLA128A_M (Shrink QFP, 128-Leads, Body 20x14 mm, Pitch 0.5mm, IPC Low Density)
part A pins: 1 NON_IEEE_STRAP (io), 2 RESERVED, 3 ~{INTERRUPT} (out), 6 TX_TCLK/MAN_MDIX_STRAP (io), 7 ACTIVITY_LED/SPEED0_STRAP (io), 8 LINK10_LED/RLED/SPEED1_STRAP (io), 9 LINK100_LED/DUPLEX_STRAP (io), 10 LINK1000_LED/AN_EN_STRAP (io), 13 DUPLEX_LED/PHYADDR0_STRAP (io), 14 PHYADDR1_STRAP (in), 17 PHYADDR2_STRAP (in), 18 PHYADDR3_STRAP (in), 23 RESERVED, 24 TCK (in), 27 TMS (in), 28 TDO (out), 31 TDI (in), 32 ~{TRST} (in), 33 ~{RESET} (in), 34 VDD_SEL_STRAP (io), 39 COL (out), 40 CRS/RGMII_SEL0 (out), 41 RX_ER/RXDV_ER (out), 44 RX_DV/RCK (out), 45 RXD7 (out), 46 RXD6 (out), 47 RXD5 (out), 50 RXD4 (out), 51 RXD3/RX3 (out), 52 RXD2/RX2 (out), 55 RXD1/RX1 (out), 56 RXD0/RX0 (out), 57 RX_CLK (out), 60 TX_CLK/RGMII_SEL1 (out), 61 TX_ER (in), 62 TX_EN/TXEN_ER (in), 65 TXD7 (in), 66 TXD6 (in), 67 TXD5 (in), 68 TXD4 (in), 71 TXD3/TX3 (in), 72 TXD2/TX2 (in), 75 TXD1/TX1 (in), 76 TXD0/TX0 (in), 79 GTX_CLK/TCK (in), 80 MDIO (io), 81 MDC (in), 84 RESERVED, 85 CLK_TO_MAC (out), 86 CLK_IN (in), 87 CLK_OUT (out), 88 MAC_CLK_EN_STRAP (in), 89 MDIX_EN_STRAP (io), 94 MULTI_EN_STRAP/TX_TRIGGER (io), 95 PHYADDR4_STRAP (in), 102 BG_REF (in), 108 MDIA_P (io), 109 MDIA_N (io), 114 MDIB_P (io), 115 MDIB_N (io), 120 MDIC_P (io), 121 MDIC_N (io), 126 MDID_P (io), 127 MDID_N (io)
part B pins: 4 IO_VDD (power), 5 VSS (power), 11 CORE_VDD (power), 12 VSS (power), 15 IO_VDD (power), 16 VSS (power), 19 CORE_VDD (power), 20 VSS (power), 21 IO_VDD (power), 22 VSS (power), 25 CORE_VDD (power), 26 VSS (power), 29 IO_VDD (power), 30 VSS (power), 35 CORE_VDD (power), 36 VSS (power), 37 IO_VDD (power), 38 VSS (power), 42 IO_VDD (power), 43 VSS (power), 48 CORE_VDD (power), 49 VSS (power), 53 IO_VDD (power), 54 VSS (power), 58 IO_VDD (power), 59 VSS (power), 63 CORE_VDD (power), 64 VSS (power), 69 IO_VDD (power), 70 VSS (power), 73 CORE_VDD (power), 74 VSS (power), 77 IO_VDD (power), 78 VSS (power), 82 VSS (power), 83 IO_VDD (power), 90 IO_VDD (power), 91 VSS (power), 92 CORE_VDD (power), 93 VSS (power), 96 AFE_VDD (power), 97 VSS (power), 98 PGM_VDD (power), 99 VSS (power), 100 1V8_AVDD3 (power), 101 BG_VDD (power), 103 RX_VDD (power), 104 VSS (power), 105 RX_VDD (power), 106 VSS (power), 107 VSS (power), 110 VSS (power), 111 RX_VDD (power), 112 VSS (power), 113 VSS (power), 116 VSS (power), 117 RX_VDD (power), 118 VSS (power), 119 VSS (power), 122 VSS (power), 123 RX_VDD (power), 124 VSS (power), 125 VSS (power), 128 VSS (power)

## DP83910AV
designator U?
CMOS SNI Serial Network Interface, 28-pin PLCC; PartNumber: DP83910AV; Manufacturer: National Semiconductor; PackageTopMarking: NSUZXYYTTE#*DP83910AV; PowerWise: N; CompType: Interface IC; Published: 4-Dec-2008; DatasheetVersion: May-1995; PackageVersion: revK, Dec-1993; PackageReference: V28A; Publisher: Altium Limited; PackageDescription: Plastic Chip Carrier, Sq., .050in Pitch, 28 Lead; RoHS: N; PinCount: 28; Code_IPC: PLCC-28; ComponentLink1Description: DP83910A Datasheet; ComponentLink1URL: http://www.national.com/ds/DP/DP83910A.pdf; ComponentLink2Description: DP83910A Web Page; ComponentLink2URL: http://www.national.com/pf/DP/DP83910A.html; ComponentLink3Description: V28A Package Page; ComponentLink3URL: http://www.national.com/packaging/folders/v28a.html
footprint V28A_N (Leaded Chip Carrier, 28-Leads, Body 11.5x11.5mm, Pitch 1.27mm, IPC Medium Density)
footprint V28A_L (Leaded Chip Carrier, 28-Leads, Body 11.5x11.5mm, Pitch 1.27mm, IPC High Density)
footprint V28A_M (Leaded Chip Carrier, 28-Leads, Body 11.5x11.5mm, Pitch 1.27mm, IPC Low Density)
pins: 1 COL (out), 2 RXD (out), 3 CRS (out), 4 RXC (out), 5 SEL (in), 6 NC, 7 VSS (power), 8 VSS (power), 9 VSS (power), 10 LBK (in), 11 X1 (in), 12 X2 (out), 13 TXD (in), 14 TXC (out), 15 TXE (in), 16 TX- (out), 17 TX+ (out), 18 NC, 19 TEST (in), 20 VDD (power), 21 VDD (power), 22 VDD (power), 23 VDD (power), 24 NC, 25 RX- (in), 26 RX+ (in), 27 CD- (in), 28 CD+ (in)

## DS08MB200TSQ
designator U?
Dual 800 Mbps 2:1/1:2 LVDS Mux/Buffer, 48-pin LLP; PartNumber: DS08MB200TSQ; Manufacturer: National Semiconductor; PackageTopMarking: NS*UZXYTTE#*08MB200; PowerWise: N; CompType: Interface IC; Published: 4-Dec-2008; DatasheetVersion: Nov-2007; PackageVersion: revB, May-2009; PackageReference: SQA48A; Publisher: Altium Limited; PackageDescription: LLP, Plastic, Quad, 7 x 7 x 0.8mm Body, 48 Lead, 0.5mm Pitch, No Pullback; RoHS: N; PinCount: 48; Code_JEDEC: MO-220-WKKD-2; ComponentLink1Description: DS08MB200 Datasheet; ComponentLink1URL: http://www.national.com/ds/DS/DS08MB200.pdf; ComponentLink2Description: DS08MB200 Web Page; ComponentLink2URL: http://www.national.com/pf/DS/DS08MB200.html; ComponentLink3Description: SQA48A Package Page; ComponentLink3URL: http://www.national.com/packaging/folders/sqa48a.html
footprint SQA48A (QFN, 48-Leads, Body 7x7mm, Pitch 0.5mm, NSC Recommended)
pins: 1 NC, 2 GND (power), 3 GND (power), 4 ENL_1  (in), 5 NC, 6 VDD (power), 7 LO_1+ (out), 8 LO_1-  (out), 9 LI_1+ (in), 10 LI_1-  (in), 11 MUX_S1  (in), 12 VDD (power), 13 ENA_1  (in), 14 ENB_1  (in), 15 SOA_1+ (out), 16 SOA_1- (out), 17 SOB_1+ (out), 18 SOB_1- (out), 19 SIA_1+ (in), 20 SIA_1- (in), 21 SIB_1+ (in), 22 SIB_1- (in), 23 NC, 24 NC, 25 NC, 26 NC, 27 SIB_0- (in), 28 SIB_0+ (in), 29 SIA_0- (in), 30 SIA_0+ (in), 31 SOB_0- (out), 32 SOB_0+ (out), 33 SOA_0- (out), 34 SOA_0+ (out), 35 ENB_0  (in), 36 ENA_0  (in), 37 VDD (power), 38 MUX_S0  (in), 39 LI_0-  (in), 40 LI_0+ (in), 41 LO_0-  (out), 42 LO_0+ (out), 43 VDD (power), 44 NC, 45 ENL_0  (in), 46 GND (power), 47 GND (power), 48 VDD (power), 49 GND (power)

## DS08MB200TSQ/NOPB
designator U?
Dual 800 Mbps 2:1/1:2 LVDS Mux/Buffer, 48-pin LLP, Pb-Free; PartNumber: DS08MB200TSQ/NOPB; Manufacturer: National Semiconductor; PackageTopMarking: NS*UZXYTTE#*08MB200; PowerWise: N; CompType: Interface IC; Published: 1-Mar-2010; DatasheetVersion: Nov-2007; PackageVersion: revB, May-2009; PackageReference: SQA48A; Publisher: Altium Limited; PackageDescription: LLP, Plastic, Quad, 7 x 7 x 0.8mm Body, 48 Lead, 0.5mm Pitch, No Pullback; Supplier 1: Digi-Key; Supplier Part Number 1: DS08MB200TSQTR-ND; Supplier 2: Digi-Key; Supplier Part Number 2: DS08MB200TSQCT-ND; Supplier 3: Digi-Key; Supplier Part Number 3: DS08MB200TSQDKR-ND; RoHS: Y; PinCount: 48; Code_JEDEC: MO-220-WKKD-2; ComponentLink1Description: DS08MB200 Datasheet; ComponentLink1URL: http://www.national.com/ds/DS/DS08MB200.pdf; ComponentLink2Description: DS08MB200 Web Page; ComponentLink2URL: http://www.national.com/pf/DS/DS08MB200.html; ComponentLink3Description: SQA48A Package Page; ComponentLink3URL: http://www.national.com/packaging/folders/sqa48a.html
footprint SQA48A (QFN, 48-Leads, Body 7x7mm, Pitch 0.5mm, NSC Recommended)
pins: 1 NC, 2 GND (power), 3 GND (power), 4 ENL_1  (in), 5 NC, 6 VDD (power), 7 LO_1+ (out), 8 LO_1-  (out), 9 LI_1+ (in), 10 LI_1-  (in), 11 MUX_S1  (in), 12 VDD (power), 13 ENA_1  (in), 14 ENB_1  (in), 15 SOA_1+ (out), 16 SOA_1- (out), 17 SOB_1+ (out), 18 SOB_1- (out), 19 SIA_1+ (in), 20 SIA_1- (in), 21 SIB_1+ (in), 22 SIB_1- (in), 23 NC, 24 NC, 25 NC, 26 NC, 27 SIB_0- (in), 28 SIB_0+ (in), 29 SIA_0- (in), 30 SIA_0+ (in), 31 SOB_0- (out), 32 SOB_0+ (out), 33 SOA_0- (out), 34 SOA_0+ (out), 35 ENB_0  (in), 36 ENA_0  (in), 37 VDD (power), 38 MUX_S0  (in), 39 LI_0-  (in), 40 LI_0+ (in), 41 LO_0-  (out), 42 LO_0+ (out), 43 VDD (power), 44 NC, 45 ENL_0  (in), 46 GND (power), 47 GND (power), 48 VDD (power), 49 GND (power)

## DS08MB200TSQX
designator U?
Dual 800 Mbps 2:1/1:2 LVDS Mux/Buffer, 48-pin LLP; PartNumber: DS08MB200TSQX; Manufacturer: National Semiconductor; PackageTopMarking: NS*UZXYTTE#*08MB200; PowerWise: N; CompType: Interface IC; Published: 1-Mar-2010; DatasheetVersion: Nov-2007; PackageVersion: revB, May-2009; PackageReference: SQA48A; Publisher: Altium Limited; PackageDescription: LLP, Plastic, Quad, 7 x 7 x 0.8mm Body, 48 Lead, 0.5mm Pitch, No Pullback; RoHS: N; PinCount: 48; Code_JEDEC: MO-220-WKKD-2; ComponentLink1Description: DS08MB200 Datasheet; ComponentLink1URL: http://www.national.com/ds/DS/DS08MB200.pdf; ComponentLink2Description: DS08MB200 Web Page; ComponentLink2URL: http://www.national.com/pf/DS/DS08MB200.html; ComponentLink3Description: SQA48A Package Page; ComponentLink3URL: http://www.national.com/packaging/folders/sqa48a.html
footprint SQA48A (QFN, 48-Leads, Body 7x7mm, Pitch 0.5mm, NSC Recommended)
pins: 1 NC, 2 GND (power), 3 GND (power), 4 ENL_1  (in), 5 NC, 6 VDD (power), 7 LO_1+ (out), 8 LO_1-  (out), 9 LI_1+ (in), 10 LI_1-  (in), 11 MUX_S1  (in), 12 VDD (power), 13 ENA_1  (in), 14 ENB_1  (in), 15 SOA_1+ (out), 16 SOA_1- (out), 17 SOB_1+ (out), 18 SOB_1- (out), 19 SIA_1+ (in), 20 SIA_1- (in), 21 SIB_1+ (in), 22 SIB_1- (in), 23 NC, 24 NC, 25 NC, 26 NC, 27 SIB_0- (in), 28 SIB_0+ (in), 29 SIA_0- (in), 30 SIA_0+ (in), 31 SOB_0- (out), 32 SOB_0+ (out), 33 SOA_0- (out), 34 SOA_0+ (out), 35 ENB_0  (in), 36 ENA_0  (in), 37 VDD (power), 38 MUX_S0  (in), 39 LI_0-  (in), 40 LI_0+ (in), 41 LO_0-  (out), 42 LO_0+ (out), 43 VDD (power), 44 NC, 45 ENL_0  (in), 46 GND (power), 47 GND (power), 48 VDD (power), 49 GND (power)

## DS08MB200TSQX/NOPB
designator U?
Dual 800 Mbps 2:1/1:2 LVDS Mux/Buffer, 48-pin LLP, Pb-Free; PartNumber: DS08MB200TSQX/NOPB; Manufacturer: National Semiconductor; PackageTopMarking: NS*UZXYTTE#*08MB200; PowerWise: N; CompType: Interface IC; Published: 1-Mar-2010; DatasheetVersion: Nov-2007; PackageVersion: revB, May-2009; PackageReference: SQA48A; Publisher: Altium Limited; PackageDescription: LLP, Plastic, Quad, 7 x 7 x 0.8mm Body, 48 Lead, 0.5mm Pitch, No Pullback; Supplier 1: Digi-Key; Supplier Part Number 1: DS08MB200TSQX-ND; RoHS: Y; PinCount: 48; Code_JEDEC: MO-220-WKKD-2; ComponentLink1Description: DS08MB200 Datasheet; ComponentLink1URL: http://www.national.com/ds/DS/DS08MB200.pdf; ComponentLink2Description: DS08MB200 Web Page; ComponentLink2URL: http://www.national.com/pf/DS/DS08MB200.html; ComponentLink3Description: SQA48A Package Page; ComponentLink3URL: http://www.national.com/packaging/folders/sqa48a.html
footprint SQA48A (QFN, 48-Leads, Body 7x7mm, Pitch 0.5mm, NSC Recommended)
pins: 1 NC, 2 GND (power), 3 GND (power), 4 ENL_1  (in), 5 NC, 6 VDD (power), 7 LO_1+ (out), 8 LO_1-  (out), 9 LI_1+ (in), 10 LI_1-  (in), 11 MUX_S1  (in), 12 VDD (power), 13 ENA_1  (in), 14 ENB_1  (in), 15 SOA_1+ (out), 16 SOA_1- (out), 17 SOB_1+ (out), 18 SOB_1- (out), 19 SIA_1+ (in), 20 SIA_1- (in), 21 SIB_1+ (in), 22 SIB_1- (in), 23 NC, 24 NC, 25 NC, 26 NC, 27 SIB_0- (in), 28 SIB_0+ (in), 29 SIA_0- (in), 30 SIA_0+ (in), 31 SOB_0- (out), 32 SOB_0+ (out), 33 SOA_0- (out), 34 SOA_0+ (out), 35 ENB_0  (in), 36 ENA_0  (in), 37 VDD (power), 38 MUX_S0  (in), 39 LI_0-  (in), 40 LI_0+ (in), 41 LO_0-  (out), 42 LO_0+ (out), 43 VDD (power), 44 NC, 45 ENL_0  (in), 46 GND (power), 47 GND (power), 48 VDD (power), 49 GND (power)

## DS10BR150TSD
designator U?
1.0 Gbps LVDS Buffer/Repeater, 8-pin LLP; PartNumber: DS10BR150TSD; Manufacturer: National Semiconductor; PackageTopMarking: ZXYTT*1R150; PowerWise: N; CompType: Interface IC; Published: 4-Dec-2008; DatasheetVersion: Nov-2007; PackageVersion: revA, Aug-2003; PackageReference: SDA08A; Publisher: Altium Limited; PackageDescription: LLP, Plastic, Dual, 3 x 3 x 0.8mm Body, 8 Lead, 0.5mm Pitch, No Pullback; RoHS: Y; PinCount: 8; ComponentLink1Description: DS10BR150 Datasheet; ComponentLink1URL: http://www.national.com/ds/DS/DS10BR150.pdf; ComponentLink2Description: DS10BR150 Web Page; ComponentLink2URL: http://www.national.com/pf/DS/DS10BR150.html; ComponentLink3Description: SDA08A Package Page; ComponentLink3URL: http://www.national.com/packaging/folders/sda08a.html
footprint SDA08A (SON, 8-Leads, Body 3x3mm, Pitch 0.5mm, NSC Recommended)
pins: 1 NC , 2 IN+  (in), 3 IN- (in), 4 NC , 5 NC , 6 OUT- (out), 7 OUT+  (out), 8 VCC  (power), 9 GND  (power)

## DS10BR150TSD/NOPB
designator U?
1.0 Gbps LVDS Buffer/Repeater, 8-pin LLP, Pb-Free; PartNumber: DS10BR150TSD/NOPB; Manufacturer: National Semiconductor; PackageTopMarking: ZXYTT*1R150; PowerWise: N; CompType: Interface IC; Published: 1-Mar-2010; DatasheetVersion: Nov-2007; PackageVersion: revA, Aug-2003; PackageReference: SDA08A; Publisher: Altium Limited; PackageDescription: LLP, Plastic, Dual, 3 x 3 x 0.8mm Body, 8 Lead, 0.5mm Pitch, No Pullback; Supplier 1: Digi-Key; Supplier Part Number 1: DS10BR150TSDTR-ND; Supplier 2: Digi-Key; Supplier Part Number 2: DS10BR150TSDCT-ND; Supplier 3: Digi-Key; Supplier Part Number 3: DS10BR150TSDDKR-ND; Supplier 4: Farnell; Supplier Part Number 4: 1694584; RoHS: Y; PinCount: 8; ComponentLink1Description: DS10BR150 Datasheet; ComponentLink1URL: http://www.national.com/ds/DS/DS10BR150.pdf; ComponentLink2Description: DS10BR150 Web Page; ComponentLink2URL: http://www.national.com/pf/DS/DS10BR150.html; ComponentLink3Description: SDA08A Package Page; ComponentLink3URL: http://www.national.com/packaging/folders/sda08a.html
footprint SDA08A (SON, 8-Leads, Body 3x3mm, Pitch 0.5mm, NSC Recommended)
pins: 1 NC , 2 IN+  (in), 3 IN- (in), 4 NC , 5 NC , 6 OUT- (out), 7 OUT+  (out), 8 VCC  (power), 9 GND  (power)

## DS10BR150TSDX/NOPB
designator U?
1.0 Gbps LVDS Buffer/Repeater, 8-pin LLP, Pb-Free; PartNumber: DS10BR150TSDX/NOPB; Manufacturer: National Semiconductor; PackageTopMarking: ZXYTT*1R150; PowerWise: N; CompType: Interface IC; Published: 1-Mar-2010; DatasheetVersion: Nov-2007; PackageVersion: revA, Aug-2003; PackageReference: SDA08A; Publisher: Altium Limited; PackageDescription: LLP, Plastic, Dual, 3 x 3 x 0.8mm Body, 8 Lead, 0.5mm Pitch, No Pullback; Supplier 1: Digi-Key; Supplier Part Number 1: DS10BR150TSDX-ND; RoHS: Y; PinCount: 8; ComponentLink1Description: DS10BR150 Datasheet; ComponentLink1URL: http://www.national.com/ds/DS/DS10BR150.pdf; ComponentLink2Description: DS10BR150 Web Page; ComponentLink2URL: http://www.national.com/pf/DS/DS10BR150.html; ComponentLink3Description: SDA08A Package Page; ComponentLink3URL: http://www.national.com/packaging/folders/sda08a.html
footprint SDA08A (SON, 8-Leads, Body 3x3mm, Pitch 0.5mm, NSC Recommended)
pins: 1 NC , 2 IN+  (in), 3 IN- (in), 4 NC , 5 NC , 6 OUT- (out), 7 OUT+  (out), 8 VCC  (power), 9 GND  (power)

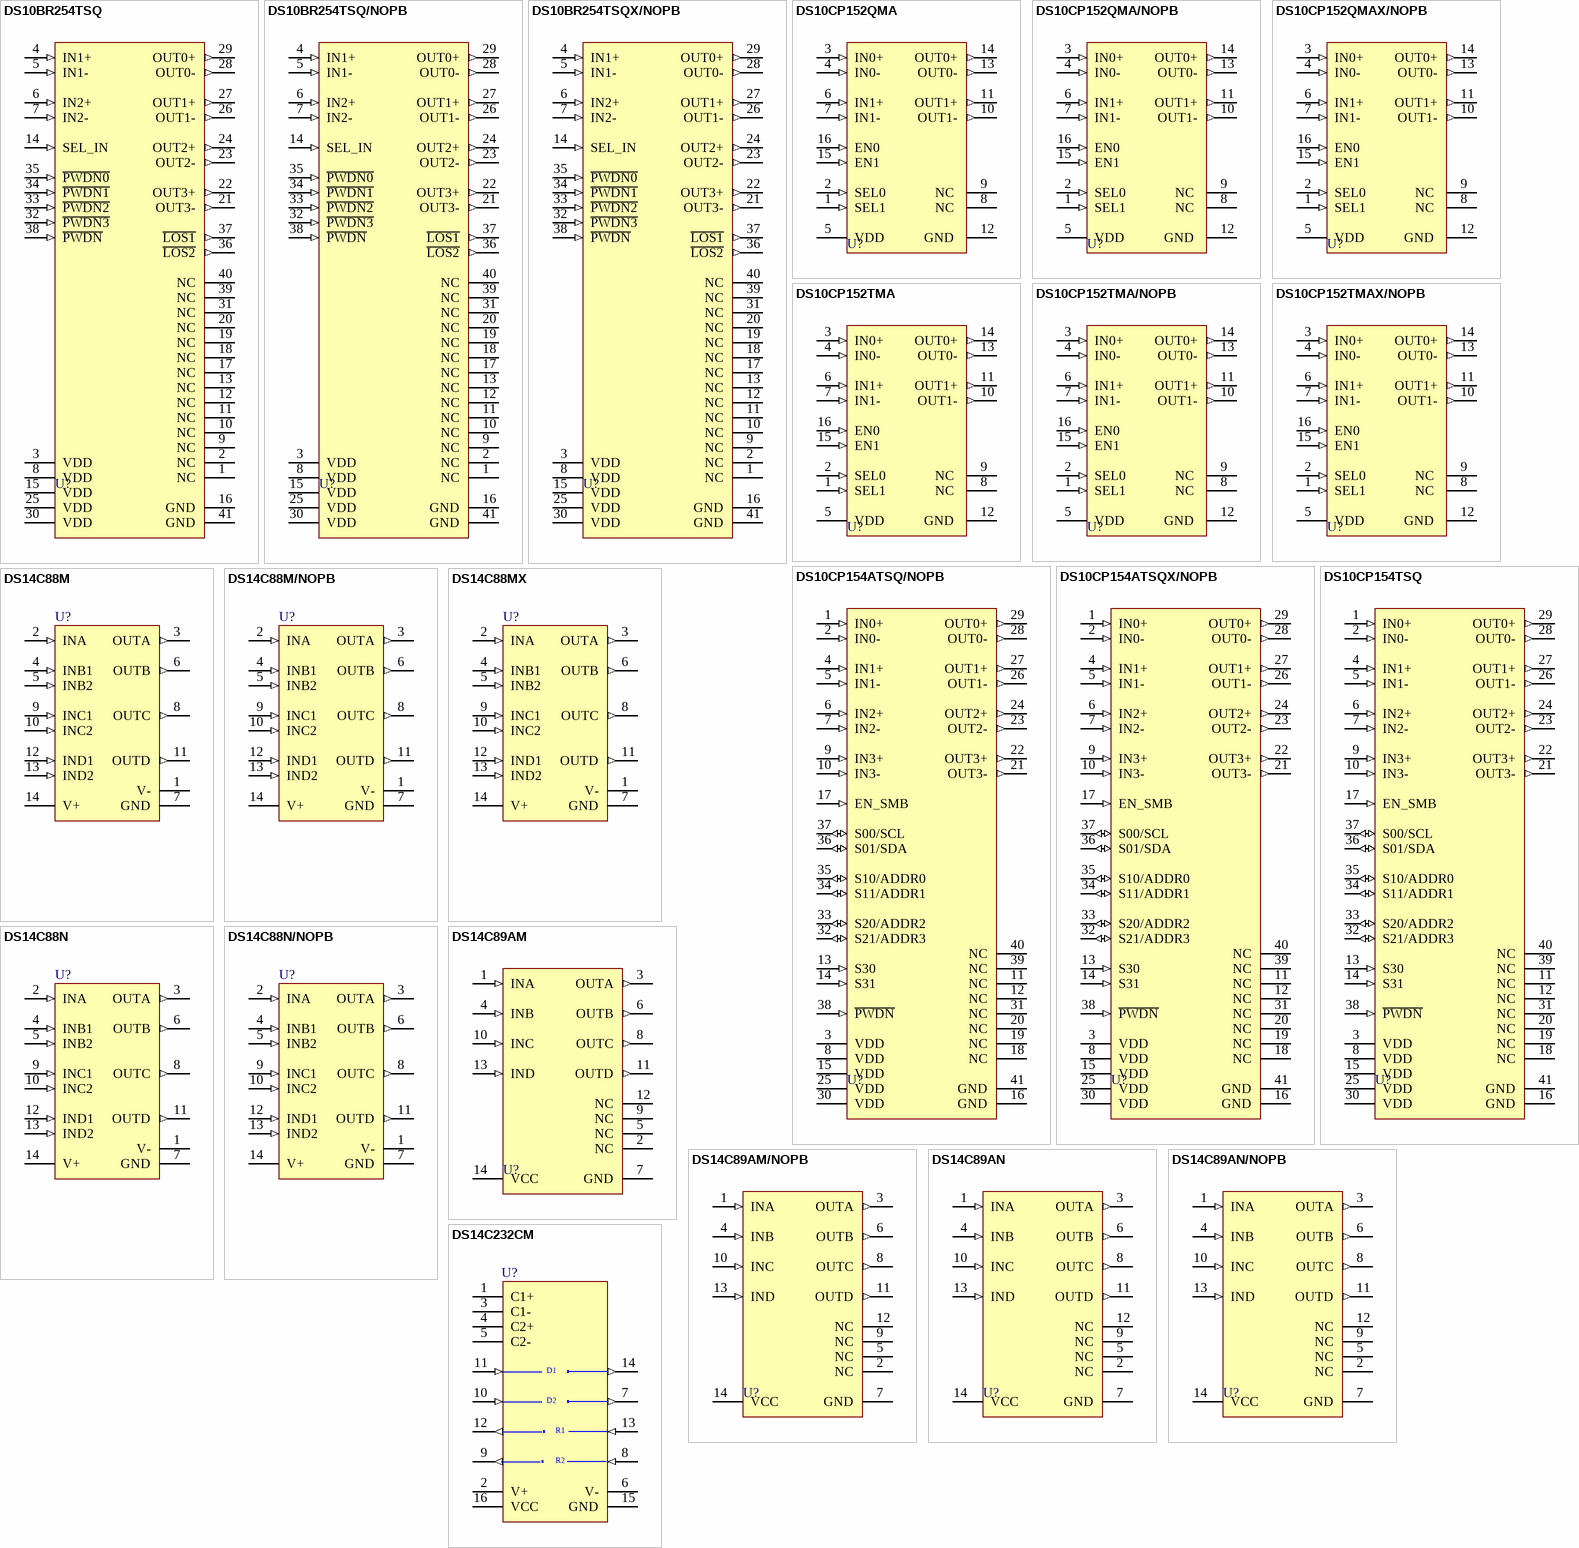
[diagram p12: symbols DS10BR254TSQ to DS14C232CM]

## DS10BR254TSQ
designator U?
1.5 Gbps 1:4 LVDS Repeater, 40-pin LLP; PartNumber: DS10BR254TSQ; Manufacturer: National Semiconductor; PackageTopMarking: NS*UZXYTT*1BR254SQ; PowerWise: N; CompType: Interface IC; Published: 4-Dec-2008; DatasheetVersion: Apr-2008; PackageVersion: revB, Mar-2004; PackageReference: SQA40A; Publisher: Altium Limited; PackageDescription: LLP, Plastic, Quad, 6 x 6 x 0.8mm Body, 40 Lead, 0.5mm Pitch, No Pullback; Supplier 1: Farnell; Supplier Part Number 1: 1552432; RoHS: Y; PinCount: 40; ComponentLink1Description: DS10BR254 Datasheet; ComponentLink1URL: http://www.national.com/ds/DS/DS10BR254.pdf; ComponentLink2Description: DS10BR254 Web Page; ComponentLink2URL: http://www.national.com/pf/DS/DS10BR254.html; ComponentLink3Description: SQA40A Package Page; ComponentLink3URL: http://www.national.com/packaging/folders/sqa40a.html
footprint SQA40A (QFN, 40-Leads, Body 6x6mm, Pitch 0.5mm, NSC Recommended)
pins: 1 NC, 2 NC, 3 VDD (power), 4 IN1+ (in), 5 IN1- (in), 6 IN2+ (in), 7 IN2- (in), 8 VDD (power), 9 NC, 10 NC, 11 NC, 12 NC, 13 NC, 14 SEL_IN (in), 15 VDD (power), 16 GND (power), 17 NC, 18 NC, 19 NC, 20 NC, 21 OUT3- (out), 22 OUT3+ (out), 23 OUT2- (out), 24 OUT2+ (out), 25 VDD (power), 26 OUT1- (out), 27 OUT1+ (out), 28 OUT0- (out), 29 OUT0+ (out), 30 VDD (power), 31 NC, 32 ~{PWDN3} (in), 33 ~{PWDN2} (in), 34 ~{PWDN1} (in), 35 ~{PWDN0} (in), 36 ~{LOS2} (out), 37 ~{LOS1} (out), 38 ~{PWDN} (in), 39 NC, 40 NC, 41 GND (power)

## DS10BR254TSQ/NOPB
designator U?
1.5 Gbps 1:4 LVDS Repeater, 40-pin LLP, Pb-Free; PartNumber: DS10BR254TSQ/NOPB; Manufacturer: National Semiconductor; PackageTopMarking: NS*UZXYTTE#*1BR254SQ; PowerWise: N; CompType: Interface IC; Published: 1-Mar-2010; DatasheetVersion: Apr-2008; PackageVersion: revB, Mar-2004; PackageReference: SQA40A; Publisher: Altium Limited; PackageDescription: LLP, Plastic, Quad, 6 x 6 x 0.8mm Body, 40 Lead, 0.5mm Pitch, No Pullback; Supplier 1: Digi-Key; Supplier Part Number 1: DS10BR254TSQTR-ND; Supplier 2: Digi-Key; Supplier Part Number 2: DS10BR254TSQCT-ND; Supplier 3: Digi-Key; Supplier Part Number 3: DS10BR254TSQDKR-ND; Supplier 4: Farnell; Supplier Part Number 4: 1555088; RoHS: Y; PinCount: 40; ComponentLink1Description: DS10BR254 Datasheet; ComponentLink1URL: http://www.national.com/ds/DS/DS10BR254.pdf; ComponentLink2Description: DS10BR254 Web Page; ComponentLink2URL: http://www.national.com/pf/DS/DS10BR254.html; ComponentLink3Description: SQA40A Package Page; ComponentLink3URL: http://www.national.com/packaging/folders/sqa40a.html
footprint SQA40A (QFN, 40-Leads, Body 6x6mm, Pitch 0.5mm, NSC Recommended)
pins: 1 NC, 2 NC, 3 VDD (power), 4 IN1+ (in), 5 IN1- (in), 6 IN2+ (in), 7 IN2- (in), 8 VDD (power), 9 NC, 10 NC, 11 NC, 12 NC, 13 NC, 14 SEL_IN (in), 15 VDD (power), 16 GND (power), 17 NC, 18 NC, 19 NC, 20 NC, 21 OUT3- (out), 22 OUT3+ (out), 23 OUT2- (out), 24 OUT2+ (out), 25 VDD (power), 26 OUT1- (out), 27 OUT1+ (out), 28 OUT0- (out), 29 OUT0+ (out), 30 VDD (power), 31 NC, 32 ~{PWDN3} (in), 33 ~{PWDN2} (in), 34 ~{PWDN1} (in), 35 ~{PWDN0} (in), 36 ~{LOS2} (out), 37 ~{LOS1} (out), 38 ~{PWDN} (in), 39 NC, 40 NC, 41 GND (power)

## DS10BR254TSQX/NOPB
designator U?
1.5 Gbps 1:4 LVDS Repeater, 40-pin LLP, Pb-Free; PartNumber: DS10BR254TSQX/NOPB; Manufacturer: National Semiconductor; PackageTopMarking: NS*UZXYTTE#*1BR254SQ; PowerWise: N; CompType: Interface IC; Published: 1-Mar-2010; DatasheetVersion: Apr-2008; PackageVersion: revB, Mar-2004; PackageReference: SQA40A; Publisher: Altium Limited; PackageDescription: LLP, Plastic, Quad, 6 x 6 x 0.8mm Body, 40 Lead, 0.5mm Pitch, No Pullback; Supplier 1: Digi-Key; Supplier Part Number 1: DS10BR254TSQX-ND; RoHS: Y; PinCount: 40; ComponentLink1Description: DS10BR254 Datasheet; ComponentLink1URL: http://www.national.com/ds/DS/DS10BR254.pdf; ComponentLink2Description: DS10BR254 Web Page; ComponentLink2URL: http://www.national.com/pf/DS/DS10BR254.html; ComponentLink3Description: SQA40A Package Page; ComponentLink3URL: http://www.national.com/packaging/folders/sqa40a.html
footprint SQA40A (QFN, 40-Leads, Body 6x6mm, Pitch 0.5mm, NSC Recommended)
pins: 1 NC, 2 NC, 3 VDD (power), 4 IN1+ (in), 5 IN1- (in), 6 IN2+ (in), 7 IN2- (in), 8 VDD (power), 9 NC, 10 NC, 11 NC, 12 NC, 13 NC, 14 SEL_IN (in), 15 VDD (power), 16 GND (power), 17 NC, 18 NC, 19 NC, 20 NC, 21 OUT3- (out), 22 OUT3+ (out), 23 OUT2- (out), 24 OUT2+ (out), 25 VDD (power), 26 OUT1- (out), 27 OUT1+ (out), 28 OUT0- (out), 29 OUT0+ (out), 30 VDD (power), 31 NC, 32 ~{PWDN3} (in), 33 ~{PWDN2} (in), 34 ~{PWDN1} (in), 35 ~{PWDN0} (in), 36 ~{LOS2} (out), 37 ~{LOS1} (out), 38 ~{PWDN} (in), 39 NC, 40 NC, 41 GND (power)

## DS10CP152QMA
designator U?
Automotive 1.5 Gbps 2X2 LVDS Crosspoint Switch, 16-pin Narrow SOIC; PartNumber: DS10CP152QMA; Manufacturer: National Semiconductor; PackageTopMarking: NSUZXYTT*DS10CP152*QMA; PowerWise: N; CompType: Interface IC; Published: 4-Dec-2008; DatasheetVersion: Jun-2008; PackageVersion: revJ, Aug-1995; PackageReference: M16A; Publisher: Altium Limited; PackageDescription: Molded Package, SO, .150in Wide, 16 Lead; RoHS: Y; PinCount: 16; Code_JEDEC: MS-012-AC; Code_IPC: SOIC127P600-16; ComponentLink1Description: DS10CP152Q Datasheet; ComponentLink1URL: http://www.national.com/ds/DS/DS10CP152Q.pdf; ComponentLink2Description: DS10CP152Q Web Page; ComponentLink2URL: http://www.national.com/pf/DS/DS10CP152Q.html; ComponentLink3Description: M16A Package Page; ComponentLink3URL: http://www.national.com/packaging/folders/m16a.html
footprint M16A_N (SOIC, 16-Leads, Body 9.9x3.9mm, Pitch 1.27mm, IPC Medium Density)
footprint M16A_L (SOIC, 16-Leads, Body 9.9x3.9mm, Pitch 1.27mm, IPC High Density)
footprint M16A_M (SOIC, 16-Leads, Body 9.9x3.9mm, Pitch 1.27mm, IPC Low Density)
pins: 1 SEL1 (in), 2 SEL0 (in), 3 IN0+ (in), 4 IN0- (in), 5 VDD (power), 6 IN1+ (in), 7 IN1- (in), 8 NC , 9 NC , 10 OUT1- (out), 11 OUT1+ (out), 12 GND  (power), 13 OUT0- (out), 14 OUT0+ (out), 15 EN1 (in), 16 EN0 (in)

## DS10CP152QMA/NOPB
designator U?
Automotive 1.5 Gbps 2X2 LVDS Crosspoint Switch, 16-pin Narrow SOIC, Pb-Free; PartNumber: DS10CP152QMA/NOPB; Manufacturer: National Semiconductor; PackageTopMarking: NSUZXYTTE#*DS10CP152*QMA; PowerWise: N; CompType: Interface IC; Published: 1-Mar-2010; DatasheetVersion: Jun-2008; PackageVersion: revJ, Aug-1995; PackageReference: M16A; Publisher: Altium Limited; PackageDescription: Molded Package, SO, .150in Wide, 16 Lead; Supplier 1: Digi-Key; Supplier Part Number 1: DS10CP152QMATR-ND; Supplier 2: Digi-Key; Supplier Part Number 2: DS10CP152QMACT-ND; Supplier 3: Digi-Key; Supplier Part Number 3: DS10CP152QMADKR-ND; RoHS: Y; PinCount: 16; Code_JEDEC: MS-012-AC; Code_IPC: SOIC127P600-16; ComponentLink1Description: DS10CP152Q Datasheet; ComponentLink1URL: http://www.national.com/ds/DS/DS10CP152Q.pdf; ComponentLink2Description: DS10CP152Q Web Page; ComponentLink2URL: http://www.national.com/pf/DS/DS10CP152Q.html; ComponentLink3Description: M16A Package Page; ComponentLink3URL: http://www.national.com/packaging/folders/m16a.html
footprint M16A_N (SOIC, 16-Leads, Body 9.9x3.9mm, Pitch 1.27mm, IPC Medium Density)
footprint M16A_L (SOIC, 16-Leads, Body 9.9x3.9mm, Pitch 1.27mm, IPC High Density)
footprint M16A_M (SOIC, 16-Leads, Body 9.9x3.9mm, Pitch 1.27mm, IPC Low Density)
pins: 1 SEL1 (in), 2 SEL0 (in), 3 IN0+ (in), 4 IN0- (in), 5 VDD (power), 6 IN1+ (in), 7 IN1- (in), 8 NC , 9 NC , 10 OUT1- (out), 11 OUT1+ (out), 12 GND  (power), 13 OUT0- (out), 14 OUT0+ (out), 15 EN1 (in), 16 EN0 (in)

## DS10CP152QMAX/NOPB
designator U?
Automotive 1.5 Gbps 2X2 LVDS Crosspoint Switch, 16-pin Narrow SOIC, Pb-Free; PartNumber: DS10CP152QMAX/NOPB; Manufacturer: National Semiconductor; PackageTopMarking: NSUZXYTTE#*DS10CP152*QMA; PowerWise: N; CompType: Interface IC; Published: 1-Mar-2010; DatasheetVersion: Jun-2008; PackageVersion: revJ, Aug-1995; PackageReference: M16A; Publisher: Altium Limited; PackageDescription: Molded Package, SO, .150in Wide, 16 Lead; Supplier 1: Digi-Key; Supplier Part Number 1: DS10CP152QMAX-ND; RoHS: Y; PinCount: 16; Code_JEDEC: MS-012-AC; Code_IPC: SOIC127P600-16; ComponentLink1Description: DS10CP152Q Datasheet; ComponentLink1URL: http://www.national.com/ds/DS/DS10CP152Q.pdf; ComponentLink2Description: DS10CP152Q Web Page; ComponentLink2URL: http://www.national.com/pf/DS/DS10CP152Q.html; ComponentLink3Description: M16A Package Page; ComponentLink3URL: http://www.national.com/packaging/folders/m16a.html
footprint M16A_N (SOIC, 16-Leads, Body 9.9x3.9mm, Pitch 1.27mm, IPC Medium Density)
footprint M16A_L (SOIC, 16-Leads, Body 9.9x3.9mm, Pitch 1.27mm, IPC High Density)
footprint M16A_M (SOIC, 16-Leads, Body 9.9x3.9mm, Pitch 1.27mm, IPC Low Density)
pins: 1 SEL1 (in), 2 SEL0 (in), 3 IN0+ (in), 4 IN0- (in), 5 VDD (power), 6 IN1+ (in), 7 IN1- (in), 8 NC , 9 NC , 10 OUT1- (out), 11 OUT1+ (out), 12 GND  (power), 13 OUT0- (out), 14 OUT0+ (out), 15 EN1 (in), 16 EN0 (in)